# Altium integrated library Xilinx Aerospace and Defense.IntLib: 197 symbols (part 16 of 56)

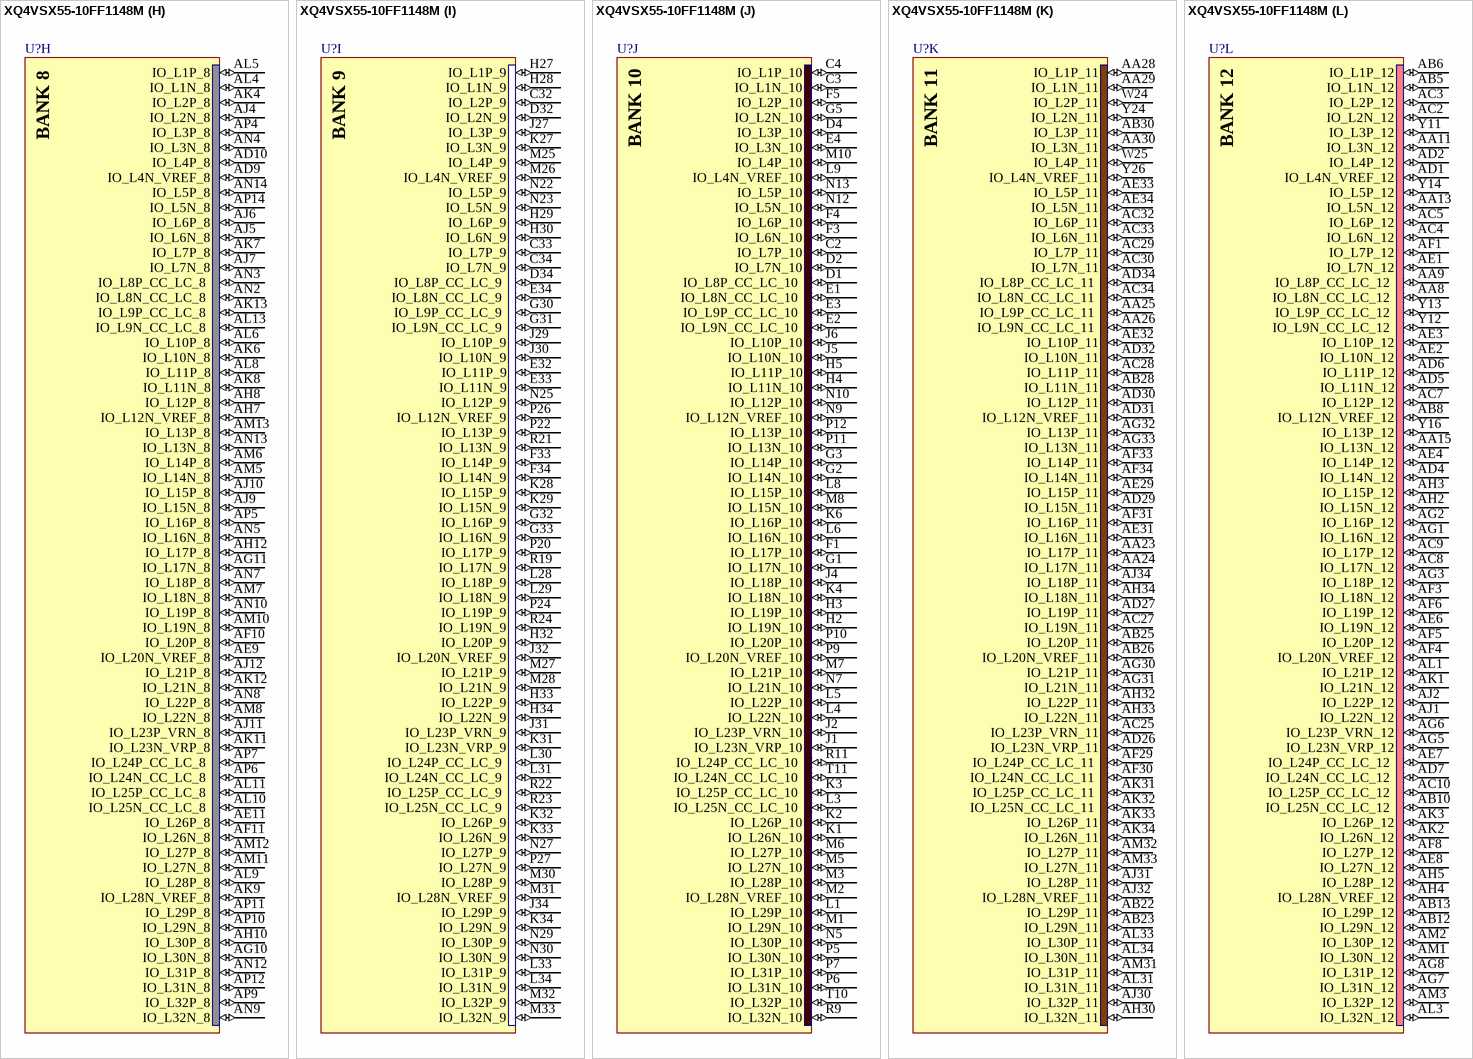
[diagram p62: symbol XQ4VSX55-10FF1148M]

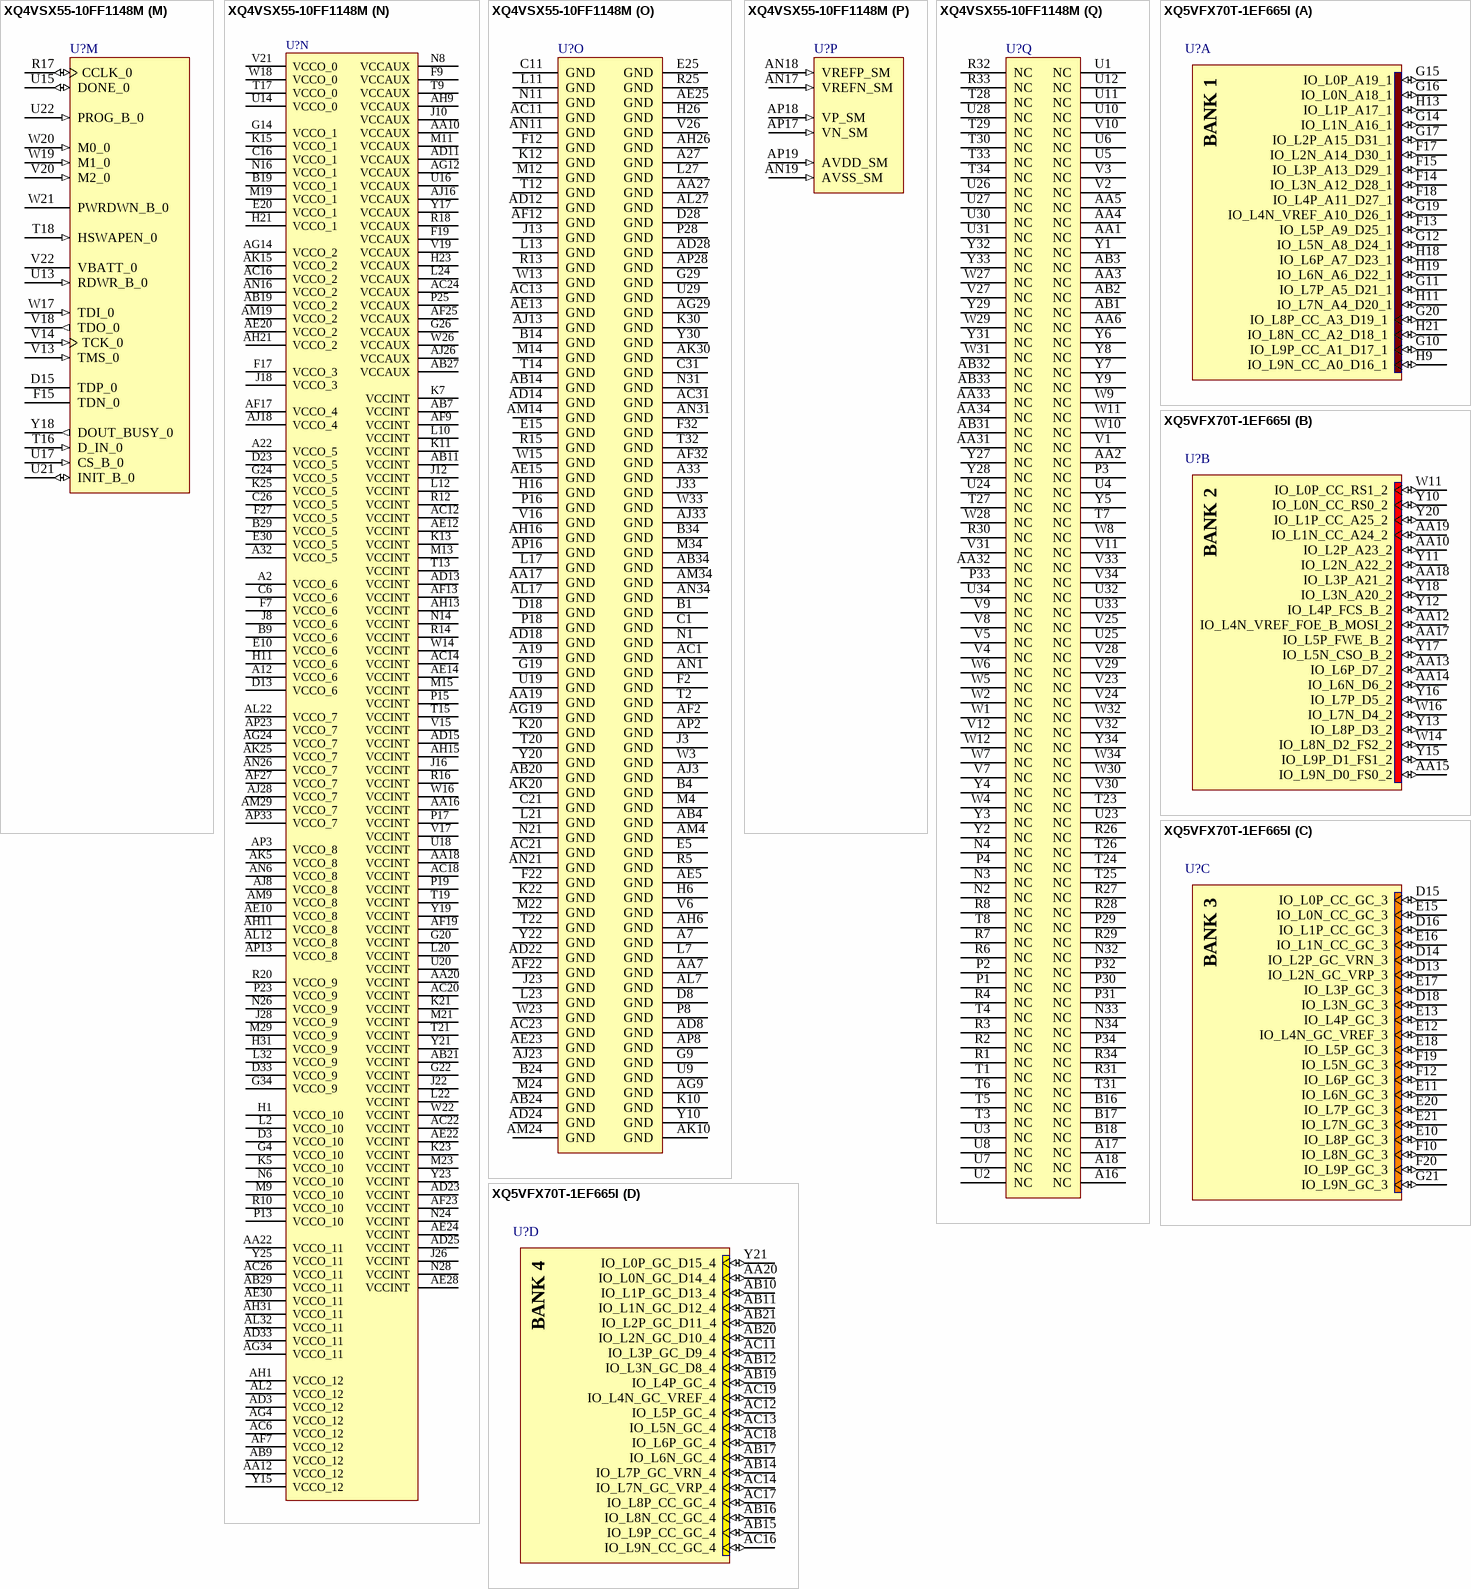
[diagram p63: symbols XQ4VSX55-10FF1148M to XQ5VFX70T-1EF665I]

## XQ4VSX55-10FF1148M
designator U?
Virtex-4 XQ SX Platform FPGA, 640 User I/Os, 1148-Ball FFBGA, Speed Grade 10, Military Grade; Published: 17-Nov-2009; DatasheetVersion: ver3.0, Sep-2007; PackageVersion: ver1.0, Oct-2002; PackageReference: FF1148; Publisher: Altium Limited; PackageDescription: 1148-Ball Flip Chip Fine Pitch Ball Grid Array (FF1148); Code_JEDEC: MS-034-AAR-1 (Depopulated); ComponentLink1Description: Virtex-4 Family Overview Datasheet; ComponentLink1URL: http://direct.xilinx.com/bvdocs/publications/ds112.pdf; ComponentLink2Description: Pinout Specification; ComponentLink2URL: http://www.xilinx.com/support/documentation/user_guides/ug075.pdf; ComponentLink3Description: FF1148 Package Drawing; ComponentLink3URL: http://www.xilinx.com/support/documentation/package_specs/ff1148.pdf; ComponentLink4Description: Xilinx.com Home; ComponentLink4URL: http://www.xilinx.com
footprint FF1148 (BGA, 1148-Leads, Body 35x35mm, Pitch 1mm)
signal-integrity model XQ4VSX55_FF1148 (Virtex-4)
part A pins: A15 IO_L24P_LC_1 (io), A20 IO_L17N_CC_LC_1 (io), B15 IO_L24N_LC_1 (io), B20 IO_L17P_CC_LC_1 (io), C15 IO_L14N_GC_LC_1 (io), C17 IO_L12P_GC_LC_1 (io), C18 IO_L13N_GC_LC_1 (io), C19 IO_L13P_GC_LC_1 (io), C20 IO_L15N_GC_LC_1 (io), D16 IO_L14P_GC_LC_1 (io), D17 IO_L12N_GC_VREF_LC_1 (io), D19 IO_L11N_GC_LC_1 (io), D20 IO_L15P_GC_LC_1 (io), D21 IO_L3N_D26_LC_1 (io), E19 IO_L11P_GC_LC_1 (io), E21 IO_L3P_D27_LC_1 (io), F13 IO_L8P_D17_CC_LC_1 (io), F14 IO_L22N_LC_1 (io), F20 IO_L23N_LC_1 (io), F21 IO_L23P_LC_1 (io), G13 IO_L8N_D16_CC_LC_1 (io), G15 IO_L22P_LC_1 (io), G21 IO_L21P_LC_1 (io), H13 IO_L6N_D20_LC_1 (io), H14 IO_L6P_D21_LC_1 (io), H15 IO_L20P_LC_1 (io), H20 IO_L21N_LC_1 (io), H22 IO_L7P_D19_LC_1 (io), J14 IO_L4P_D25_LC_1 (io), J15 IO_L20N_VREF_LC_1 (io), J20 IO_L19P_LC_1 (io), J21 IO_L7N_D18_LC_1 (io), K14 IO_L4N_D24_VREF_LC_1 (io), K16 IO_L18P_VRN_LC_1 (io), L14 IO_L2N_D28_LC_1 (io), L15 IO_L2P_D29_LC_1 (io), L16 IO_L18N_VRP_LC_1 (io), L18 IO_L9N_GC_LC_1 (io), L19 IO_L19N_LC_1 (io), M16 IO_L16P_GC_CC_LC_1 (io), M17 IO_L10P_GC_LC_1 (io), M18 IO_L9P_GC_LC_1 (io), M20 IO_L5N_D22_LC_1 (io), N15 IO_L16N_GC_CC_LC_1 (io), N17 IO_L10N_GC_LC_1 (io), N18 IO_L1N_D30_LC_1 (io), N19 IO_L1P_D31_LC_1 (io), N20 IO_L5P_D23_LC_1 (io)
part B pins: AB15 IO_L2N_D12_LC_2 (io), AB16 IO_L14N_GC_LC_2 (io), AB17 IO_L14P_GC_LC_2 (io), AB18 IO_L9N_GC_CC_LC_2 (io), AC15 IO_L2P_D13_LC_2 (io), AC17 IO_L12N_GC_VREF_LC_2 (io), AC19 IO_L9P_GC_CC_LC_2 (io), AD16 IO_L10P_GC_LC_2 (io), AD17 IO_L12P_GC_LC_2 (io), AD19 IO_L23P_VRN_LC_2 (io), AD20 IO_L17N_LC_2 (io), AD21 IO_L17P_LC_2 (io), AE19 IO_L23N_VRP_LC_2 (io), AE21 IO_L7P_D3_LC_2 (io), AF14 IO_L6P_D5_LC_2 (io), AF15 IO_L10N_GC_LC_2 (io), AF20 IO_L5N_D6_LC_2 (io), AF21 IO_L7N_D2_LC_2 (io), AG13 IO_L6N_D4_LC_2 (io), AG15 IO_L22P_LC_2 (io), AG20 IO_L21P_LC_2 (io), AG21 IO_L5P_D7_LC_2 (io), AG22 IO_L3P_D11_LC_2 (io), AH14 IO_L22N_LC_2 (io), AH20 IO_L21N_LC_2 (io), AH22 IO_L3N_D10_LC_2 (io), AJ14 IO_L20N_VREF_LC_2 (io), AJ15 IO_L20P_LC_2 (io), AJ20 IO_L19P_LC_2 (io), AJ21 IO_L1N_D14_CC_LC_2 (io), AJ22 IO_L1P_D15_CC_LC_2 (io), AK14 IO_L4N_D8_VREF_LC_2 (io), AK16 IO_L24N_CC_LC_2 (io), AL14 IO_L4P_D9_LC_2 (io), AL15 IO_L18N_LC_2 (io), AL16 IO_L24P_CC_LC_2 (io), AL18 IO_L15P_GC_LC_2 (io), AL19 IO_L13N_GC_LC_2 (io), AL20 IO_L19N_LC_2 (io), AM15 IO_L18P_LC_2 (io), AM16 IO_L16N_GC_LC_2 (io), AM17 IO_L16P_GC_LC_2 (io), AM18 IO_L15N_GC_LC_2 (io), AM20 IO_L13P_GC_LC_2 (io), AN15 IO_L8N_D0_LC_2 (io), AN20 IO_L11P_GC_LC_2 (io), AP15 IO_L8P_D1_LC_2 (io), AP20 IO_L11N_GC_LC_2 (io)
part C pins: E16 IO_L6P_GC_LC_3 (io), E17 IO_L4N_GC_VREF_LC_3 (io), E18 IO_L4P_GC_LC_3 (io), F16 IO_L6N_GC_LC_3 (io), F18 IO_L1P_GC_CC_LC_3 (io), G16 IO_L8N_GC_LC_3 (io), G17 IO_L8P_GC_LC_3 (io), G18 IO_L1N_GC_CC_LC_3 (io), H17 IO_L2P_GC_VRN_LC_3 (io), H18 IO_L3N_GC_LC_3 (io), H19 IO_L3P_GC_LC_3 (io), J17 IO_L2N_GC_VRP_LC_3 (io), J19 IO_L7N_GC_LC_3 (io), K17 IO_L5N_GC_LC_3 (io), K18 IO_L5P_GC_LC_3 (io), K19 IO_L7P_GC_LC_3 (io)
part D pins: AE16 IO_L6N_GC_LC_4 (io), AE17 IO_L6P_GC_LC_4 (io), AE18 IO_L1N_GC_LC_4 (io), AF16 IO_L2N_GC_LC_4 (io), AF18 IO_L1P_GC_LC_4 (io), AG16 IO_L2P_GC_LC_4 (io), AG17 IO_L5N_GC_LC_4 (io), AG18 IO_L5P_GC_LC_4 (io), AH17 IO_L8N_GC_CC_LC_4 (io), AH18 IO_L3N_GC_LC_4 (io), AH19 IO_L3P_GC_LC_4 (io), AJ17 IO_L8P_GC_CC_LC_4 (io), AJ19 IO_L7P_GC_VRN_LC_4 (io), AK17 IO_L4N_GC_VREF_LC_4 (io), AK18 IO_L4P_GC_LC_4 (io), AK19 IO_L7N_GC_VRP_LC_4 (io)
part E pins: A21 IO_L21N_5 (io), A23 IO_L1N_ADC7_5 (io), A24 IO_L3P_ADC5_5 (io), A25 IO_L3N_ADC5_5 (io), A26 IO_L2P_ADC6_5 (io), A28 IO_L14P_5 (io), A29 IO_L14N_5 (io), A30 IO_L18P_5 (io), A31 IO_L24P_CC_LC_5 (io), B21 IO_L21P_5 (io), B22 IO_L17N_5 (io), B23 IO_L1P_ADC7_5 (io), B25 IO_L15P_5 (io), B26 IO_L2N_ADC6_5 (io), B27 IO_L8P_CC_ADC1_LC_5 (io), B28 IO_L25P_CC_LC_5 (io), B30 IO_L18N_5 (io), B31 IO_L24N_CC_LC_5 (io), B32 IO_L31P_5 (io), B33 IO_L31N_5 (io), C22 IO_L17P_5 (io), C23 IO_L5P_ADC4_5 (io), C24 IO_L5N_ADC4_5 (io), C25 IO_L15N_5 (io), C27 IO_L8N_CC_ADC1_LC_5 (io), C28 IO_L25N_CC_LC_5 (io), C29 IO_L20P_5 (io), C30 IO_L20N_VREF_5 (io), D22 IO_L23N_VRP_5 (io), D24 IO_L7P_ADC2_5 (io), D25 IO_L7N_ADC2_5 (io), D26 IO_L10P_5 (io), D27 IO_L12P_5 (io), D29 IO_L29P_5 (io), D30 IO_L26P_5 (io), D31 IO_L26N_5 (io), E22 IO_L23P_VRN_5 (io), E23 IO_L9N_CC_LC_5 (io), E24 IO_L11N_5 (io), E26 IO_L10N_5 (io), E27 IO_L12N_VREF_5 (io), E28 IO_L22P_5 (io), E29 IO_L29N_5 (io), E31 IO_L32P_5 (io), F23 IO_L9P_CC_LC_5 (io), F24 IO_L11P_5 (io), F25 IO_L6P_ADC3_5 (io), F26 IO_L6N_ADC3_5 (io), F28 IO_L22N_5 (io), F29 IO_L28P_5 (io), F30 IO_L28N_VREF_5 (io), F31 IO_L32N_5 (io), G23 IO_L13P_5 (io), G25 IO_L4P_5 (io), G27 IO_L27P_5 (io), G28 IO_L27N_5 (io), H24 IO_L13N_5 (io), H25 IO_L4N_VREF_5 (io), J24 IO_L19N_5 (io), J25 IO_L16P_5 (io), K24 IO_L19P_5 (io), K26 IO_L16N_5 (io), L25 IO_L30P_5 (io), L26 IO_L30N_5 (io)
part F pins: A3 IO_L20N_VREF_6 (io), A4 IO_L20P_6 (io), A5 IO_L22P_6 (io), A6 IO_L12P_6 (io), A8 IO_L10P_6 (io), A9 IO_L15N_6 (io), A10 IO_L15P_6 (io), A11 IO_L3P_6 (io), A13 IO_L17N_6 (io), A14 IO_L17P_6 (io), B2 IO_L30N_6 (io), B3 IO_L30P_6 (io), B5 IO_L22N_6 (io), B6 IO_L12N_VREF_6 (io), B7 IO_L14P_6 (io), B8 IO_L10N_6 (io), B10 IO_L2P_6 (io), B11 IO_L3N_6 (io), B12 IO_L9N_CC_LC_6 (io), B13 IO_L9P_CC_LC_6 (io), C5 IO_L27P_6 (io), C7 IO_L14N_6 (io), C8 IO_L4N_VREF_6 (io), C9 IO_L4P_6 (io), C10 IO_L2N_6 (io), C12 IO_L1N_6 (io), C13 IO_L25N_CC_LC_6 (io), C14 IO_L25P_CC_LC_6 (io), D5 IO_L27N_6 (io), D6 IO_L18N_6 (io), D7 IO_L18P_6 (io), D9 IO_L19P_6 (io), D10 IO_L7N_6 (io), D11 IO_L7P_6 (io), D12 IO_L1P_6 (io), D14 IO_L29N_6 (io), E6 IO_L26P_6 (io), E7 IO_L23N_VRP_6 (io), E8 IO_L23P_VRN_6 (io), E9 IO_L19N_6 (io), E11 IO_L11P_6 (io), E12 IO_L21N_6 (io), E13 IO_L21P_6 (io), E14 IO_L29P_6 (io), F6 IO_L26N_6 (io), F8 IO_L16P_6 (io), F10 IO_L6P_6 (io), F11 IO_L11N_6 (io), G6 IO_L28N_VREF_6 (io), G7 IO_L28P_6 (io), G8 IO_L16N_6 (io), G10 IO_L6N_6 (io), G11 IO_L5N_6 (io), G12 IO_L5P_6 (io), H7 IO_L31N_6 (io), H8 IO_L31P_6 (io), H9 IO_L8N_CC_LC_6 (io), H10 IO_L8P_CC_LC_6 (io), H12 IO_L13P_6 (io), J7 IO_L32N_6 (io), J9 IO_L24P_CC_LC_6 (io), J11 IO_L13N_6 (io), K8 IO_L32P_6 (io), K9 IO_L24N_CC_LC_6 (io)
part G pins: AE26 IO_L3N_7 (io), AE27 IO_L2N_7 (io), AF24 IO_L21N_7 (io), AF26 IO_L3P_7 (io), AF28 IO_L2P_7 (io), AG23 IO_L21P_7 (io), AG25 IO_L22P_7 (io), AG26 IO_L22N_7 (io), AG27 IO_L8P_CC_LC_7 (io), AG28 IO_L8N_CC_LC_7 (io), AH23 IO_L23P_VRN_7 (io), AH24 IO_L23N_VRP_7 (io), AH25 IO_L28N_VREF_7 (io), AH27 IO_L16N_7 (io), AH28 IO_L6P_7 (io), AH29 IO_L6N_7 (io), AJ24 IO_L19N_7 (io), AJ25 IO_L28P_7 (io), AJ27 IO_L16P_7 (io), AJ29 IO_L1N_7 (io), AK21 IO_L5P_7 (io), AK22 IO_L13P_7 (io), AK23 IO_L13N_7 (io), AK24 IO_L19P_7 (io), AK26 IO_L26N_SM6_7 (io), AK27 IO_L20P_7 (io), AK28 IO_L20N_VREF_7 (io), AK29 IO_L1P_7 (io), AL21 IO_L5N_7 (io), AL23 IO_L31P_SM2_7 (io), AL24 IO_L25P_CC_SM7_LC_7 (io), AL25 IO_L25N_CC_SM7_LC_7 (io), AL26 IO_L26P_SM6_7 (io), AL28 IO_L14P_7 (io), AL29 IO_L14N_7 (io), AL30 IO_L10N_7 (io), AM21 IO_L9P_CC_LC_7 (io), AM22 IO_L9N_CC_LC_7 (io), AM23 IO_L31N_SM2_7 (io), AM25 IO_L32N_SM1_7 (io), AM26 IO_L30P_SM3_7 (io), AM27 IO_L30N_SM3_7 (io), AM28 IO_L24N_CC_LC_7 (io), AM30 IO_L10P_7 (io), AN22 IO_L27P_SM5_7 (io), AN23 IO_L27N_SM5_7 (io), AN24 IO_L29N_SM4_7 (io), AN25 IO_L32P_SM1_7 (io), AN27 IO_L11N_7 (io), AN28 IO_L24P_CC_LC_7 (io), AN29 IO_L18N_7 (io), AN30 IO_L7N_7 (io), AN32 IO_L4P_7 (io), AN33 IO_L4N_VREF_7 (io), AP21 IO_L17P_7 (io), AP22 IO_L17N_7 (io), AP24 IO_L29P_SM4_7 (io), AP25 IO_L15P_7 (io), AP26 IO_L15N_7 (io), AP27 IO_L11P_7 (io), AP29 IO_L18P_7 (io), AP30 IO_L7P_7 (io), AP31 IO_L12P_7 (io), AP32 IO_L12N_VREF_7 (io)
part H pins: AD9 IO_L4N_VREF_8 (io), AD10 IO_L4P_8 (io), AE9 IO_L20N_VREF_8 (io), AE11 IO_L26P_8 (io), AF10 IO_L20P_8 (io), AF11 IO_L26N_8 (io), AG10 IO_L30N_8 (io), AG11 IO_L17N_8 (io), AH7 IO_L12N_VREF_8 (io), AH8 IO_L12P_8 (io), AH10 IO_L30P_8 (io), AH12 IO_L17P_8 (io), AJ4 IO_L2N_8 (io), AJ5 IO_L6N_8 (io), AJ6 IO_L6P_8 (io), AJ7 IO_L7N_8 (io), AJ9 IO_L15N_8 (io), AJ10 IO_L15P_8 (io), AJ11 IO_L23P_VRN_8 (io), AJ12 IO_L21P_8 (io), AK4 IO_L2P_8 (io), AK6 IO_L10N_8 (io), AK7 IO_L7P_8 (io), AK8 IO_L11N_8 (io), AK9 IO_L28N_VREF_8 (io), AK11 IO_L23N_VRP_8 (io), AK12 IO_L21N_8 (io), AK13 IO_L9P_CC_LC_8 (io), AL4 IO_L1N_8 (io), AL5 IO_L1P_8 (io), AL6 IO_L10P_8 (io), AL8 IO_L11P_8 (io), AL9 IO_L28P_8 (io), AL10 IO_L25N_CC_LC_8 (io), AL11 IO_L25P_CC_LC_8 (io), AL13 IO_L9N_CC_LC_8 (io), AM5 IO_L14N_8 (io), AM6 IO_L14P_8 (io), AM7 IO_L18N_8 (io), AM8 IO_L22N_8 (io), AM10 IO_L19N_8 (io), AM11 IO_L27N_8 (io), AM12 IO_L27P_8 (io), AM13 IO_L13P_8 (io), AN2 IO_L8N_CC_LC_8 (io), AN3 IO_L8P_CC_LC_8 (io), AN4 IO_L3N_8 (io), AN5 IO_L16N_8 (io), AN7 IO_L18P_8 (io), AN8 IO_L22P_8 (io), AN9 IO_L32N_8 (io), AN10 IO_L19P_8 (io), AN12 IO_L31P_8 (io), AN13 IO_L13N_8 (io), AN14 IO_L5P_8 (io), AP4 IO_L3P_8 (io), AP5 IO_L16P_8 (io), AP6 IO_L24N_CC_LC_8 (io), AP7 IO_L24P_CC_LC_8 (io), AP9 IO_L32P_8 (io), AP10 IO_L29N_8 (io), AP11 IO_L29P_8 (io), AP12 IO_L31N_8 (io), AP14 IO_L5N_8 (io)
part I pins: C32 IO_L2P_9 (io), C33 IO_L7P_9 (io), C34 IO_L7N_9 (io), D32 IO_L2N_9 (io), D34 IO_L8P_CC_LC_9 (io), E32 IO_L11P_9 (io), E33 IO_L11N_9 (io), E34 IO_L8N_CC_LC_9 (io), F33 IO_L14P_9 (io), F34 IO_L14N_9 (io), G30 IO_L9P_CC_LC_9 (io), G31 IO_L9N_CC_LC_9 (io), G32 IO_L16P_9 (io), G33 IO_L16N_9 (io), H27 IO_L1P_9 (io), H28 IO_L1N_9 (io), H29 IO_L6P_9 (io), H30 IO_L6N_9 (io), H32 IO_L20P_9 (io), H33 IO_L22P_9 (io), H34 IO_L22N_9 (io), J27 IO_L3P_9 (io), J29 IO_L10P_9 (io), J30 IO_L10N_9 (io), J31 IO_L23P_VRN_9 (io), J32 IO_L20N_VREF_9 (io), J34 IO_L29P_9 (io), K27 IO_L3N_9 (io), K28 IO_L15P_9 (io), K29 IO_L15N_9 (io), K31 IO_L23N_VRP_9 (io), K32 IO_L26P_9 (io), K33 IO_L26N_9 (io), K34 IO_L29N_9 (io), L28 IO_L18P_9 (io), L29 IO_L18N_9 (io), L30 IO_L24P_CC_LC_9 (io), L31 IO_L24N_CC_LC_9 (io), L33 IO_L31P_9 (io), L34 IO_L31N_9 (io), M25 IO_L4P_9 (io), M26 IO_L4N_VREF_9 (io), M27 IO_L21P_9 (io), M28 IO_L21N_9 (io), M30 IO_L28P_9 (io), M31 IO_L28N_VREF_9 (io), M32 IO_L32P_9 (io), M33 IO_L32N_9 (io), N22 IO_L5P_9 (io), N23 IO_L5N_9 (io), N25 IO_L12P_9 (io), N27 IO_L27P_9 (io), N29 IO_L30P_9 (io), N30 IO_L30N_9 (io), P20 IO_L17P_9 (io), P22 IO_L13P_9 (io), P24 IO_L19P_9 (io), P26 IO_L12N_VREF_9 (io), P27 IO_L27N_9 (io), R19 IO_L17N_9 (io), R21 IO_L13N_9 (io), R22 IO_L25P_CC_LC_9 (io), R23 IO_L25N_CC_LC_9 (io), R24 IO_L19N_9 (io)
part J pins: C2 IO_L7P_10 (io), C3 IO_L1N_10 (io), C4 IO_L1P_10 (io), D1 IO_L8P_CC_LC_10 (io), D2 IO_L7N_10 (io), D4 IO_L3P_10 (io), E1 IO_L8N_CC_LC_10 (io), E2 IO_L9N_CC_LC_10 (io), E3 IO_L9P_CC_LC_10 (io), E4 IO_L3N_10 (io), F1 IO_L17P_10 (io), F3 IO_L6N_10 (io), F4 IO_L6P_10 (io), F5 IO_L2P_10 (io), G1 IO_L17N_10 (io), G2 IO_L14N_10 (io), G3 IO_L14P_10 (io), G5 IO_L2N_10 (io), H2 IO_L19N_10 (io), H3 IO_L19P_10 (io), H4 IO_L11N_10 (io), H5 IO_L11P_10 (io), J1 IO_L23N_VRP_10 (io), J2 IO_L23P_VRN_10 (io), J4 IO_L18P_10 (io), J5 IO_L10N_10 (io), J6 IO_L10P_10 (io), K1 IO_L26N_10 (io), K2 IO_L26P_10 (io), K3 IO_L25P_CC_LC_10 (io), K4 IO_L18N_10 (io), K6 IO_L16P_10 (io), L1 IO_L29P_10 (io), L3 IO_L25N_CC_LC_10 (io), L4 IO_L22N_10 (io), L5 IO_L22P_10 (io), L6 IO_L16N_10 (io), L8 IO_L15P_10 (io), L9 IO_L4N_VREF_10 (io), M1 IO_L29N_10 (io), M2 IO_L28N_VREF_10 (io), M3 IO_L28P_10 (io), M5 IO_L27N_10 (io), M6 IO_L27P_10 (io), M7 IO_L21P_10 (io), M8 IO_L15N_10 (io), M10 IO_L4P_10 (io), N5 IO_L30P_10 (io), N7 IO_L21N_10 (io), N9 IO_L12N_VREF_10 (io), N10 IO_L12P_10 (io), N12 IO_L5N_10 (io), N13 IO_L5P_10 (io), P5 IO_L30N_10 (io), P6 IO_L31N_10 (io), P7 IO_L31P_10 (io), P9 IO_L20N_VREF_10 (io), P10 IO_L20P_10 (io), P11 IO_L13N_10 (io), P12 IO_L13P_10 (io), R9 IO_L32N_10 (io), R11 IO_L24P_CC_LC_10 (io), T10 IO_L32P_10 (io), T11 IO_L24N_CC_LC_10 (io)
part K pins: AA23 IO_L17P_11 (io), AA24 IO_L17N_11 (io), AA25 IO_L9P_CC_LC_11 (io), AA26 IO_L9N_CC_LC_11 (io), AA28 IO_L1P_11 (io), AA29 IO_L1N_11 (io), AA30 IO_L3N_11 (io), AB22 IO_L29P_11 (io), AB23 IO_L29N_11 (io), AB25 IO_L20P_11 (io), AB26 IO_L20N_VREF_11 (io), AB28 IO_L11N_11 (io), AB30 IO_L3P_11 (io), AC25 IO_L23P_VRN_11 (io), AC27 IO_L19N_11 (io), AC28 IO_L11P_11 (io), AC29 IO_L7P_11 (io), AC30 IO_L7N_11 (io), AC32 IO_L6P_11 (io), AC33 IO_L6N_11 (io), AC34 IO_L8N_CC_LC_11 (io), AD26 IO_L23N_VRP_11 (io), AD27 IO_L19P_11 (io), AD29 IO_L15N_11 (io), AD30 IO_L12P_11 (io), AD31 IO_L12N_VREF_11 (io), AD32 IO_L10N_11 (io), AD34 IO_L8P_CC_LC_11 (io), AE29 IO_L15P_11 (io), AE31 IO_L16N_11 (io), AE32 IO_L10P_11 (io), AE33 IO_L5P_11 (io), AE34 IO_L5N_11 (io), AF29 IO_L24P_CC_LC_11 (io), AF30 IO_L24N_CC_LC_11 (io), AF31 IO_L16P_11 (io), AF33 IO_L14P_11 (io), AF34 IO_L14N_11 (io), AG30 IO_L21P_11 (io), AG31 IO_L21N_11 (io), AG32 IO_L13P_11 (io), AG33 IO_L13N_11 (io), AH30 IO_L32N_11 (io), AH32 IO_L22P_11 (io), AH33 IO_L22N_11 (io), AH34 IO_L18N_11 (io), AJ30 IO_L32P_11 (io), AJ31 IO_L28P_11 (io), AJ32 IO_L28N_VREF_11 (io), AJ34 IO_L18P_11 (io), AK31 IO_L25P_CC_LC_11 (io), AK32 IO_L25N_CC_LC_11 (io), AK33 IO_L26P_11 (io), AK34 IO_L26N_11 (io), AL31 IO_L31N_11 (io), AL33 IO_L30P_11 (io), AL34 IO_L30N_11 (io), AM31 IO_L31P_11 (io), AM32 IO_L27P_11 (io), AM33 IO_L27N_11 (io), W24 IO_L2P_11 (io), W25 IO_L4P_11 (io), Y24 IO_L2N_11 (io), Y26 IO_L4N_VREF_11 (io)
part L pins: AA8 IO_L8N_CC_LC_12 (io), AA9 IO_L8P_CC_LC_12 (io), AA11 IO_L3N_12 (io), AA13 IO_L5N_12 (io), AA15 IO_L13N_12 (io), AB5 IO_L1N_12 (io), AB6 IO_L1P_12 (io), AB8 IO_L12N_VREF_12 (io), AB10 IO_L25N_CC_LC_12 (io), AB12 IO_L29N_12 (io), AB13 IO_L29P_12 (io), AC2 IO_L2N_12 (io), AC3 IO_L2P_12 (io), AC4 IO_L6N_12 (io), AC5 IO_L6P_12 (io), AC7 IO_L12P_12 (io), AC8 IO_L17N_12 (io), AC9 IO_L17P_12 (io), AC10 IO_L25P_CC_LC_12 (io), AD1 IO_L4N_VREF_12 (io), AD2 IO_L4P_12 (io), AD4 IO_L14N_12 (io), AD5 IO_L11N_12 (io), AD6 IO_L11P_12 (io), AD7 IO_L24N_CC_LC_12 (io), AE1 IO_L7N_12 (io), AE2 IO_L10N_12 (io), AE3 IO_L10P_12 (io), AE4 IO_L14P_12 (io), AE6 IO_L19N_12 (io), AE7 IO_L24P_CC_LC_12 (io), AE8 IO_L27N_12 (io), AF1 IO_L7P_12 (io), AF3 IO_L18N_12 (io), AF4 IO_L20N_VREF_12 (io), AF5 IO_L20P_12 (io), AF6 IO_L19P_12 (io), AF8 IO_L27P_12 (io), AG1 IO_L16N_12 (io), AG2 IO_L16P_12 (io), AG3 IO_L18P_12 (io), AG5 IO_L23N_VRP_12 (io), AG6 IO_L23P_VRN_12 (io), AG7 IO_L31N_12 (io), AG8 IO_L31P_12 (io), AH2 IO_L15N_12 (io), AH3 IO_L15P_12 (io), AH4 IO_L28N_VREF_12 (io), AH5 IO_L28P_12 (io), AJ1 IO_L22N_12 (io), AJ2 IO_L22P_12 (io), AK1 IO_L21N_12 (io), AK2 IO_L26N_12 (io), AK3 IO_L26P_12 (io), AL1 IO_L21P_12 (io), AL3 IO_L32N_12 (io), AM1 IO_L30N_12 (io), AM2 IO_L30P_12 (io), AM3 IO_L32P_12 (io), Y11 IO_L3P_12 (io), Y12 IO_L9N_CC_LC_12 (io), Y13 IO_L9P_CC_LC_12 (io), Y14 IO_L5P_12 (io), Y16 IO_L13P_12 (io)
part M pins: D15 TDP_0, F15 TDN_0, R17 CCLK_0 (io), T16 D_IN_0 (in), T18 HSWAPEN_0 (in), U13 RDWR_B_0 (in), U15 DONE_0 (io), U17 CS_B_0 (in), U21 INIT_B_0 (io), U22 PROG_B_0 (in), V13 TMS_0 (in), V14 TCK_0 (in), V18 TDO_0 (out), V20 M2_0 (in), V22 VBATT_0 (power), W17 TDI_0 (in), W19 M1_0 (in), W20 M0_0 (in), W21 PWRDWN_B_0, Y18 DOUT_BUSY_0 (out)
part N pins: A2 VCCO_6 (power), A12 VCCO_6 (power), A22 VCCO_5 (power), A32 VCCO_5 (power), AA10 VCCAUX (power), AA12 VCCO_12 (power), AA16 VCCINT (power), AA18 VCCINT (power), AA20 VCCINT (power), AA22 VCCO_11 (power), AB7 VCCINT (power), AB9 VCCO_12 (power), AB11 VCCINT (power), AB19 VCCO_2 (power), AB21 VCCINT (power), AB27 VCCAUX (power), AB29 VCCO_11 (power), AC6 VCCO_12 (power), AC12 VCCINT (power), AC14 VCCINT (power), AC16 VCCO_2 (power), AC18 VCCINT (power), AC20 VCCINT (power), AC22 VCCINT (power), AC24 VCCAUX (power), AC26 VCCO_11 (power), AD3 VCCO_12 (power), AD11 VCCAUX (power), AD13 VCCINT (power), AD15 VCCINT (power), AD23 VCCINT (power), AD25 VCCINT (power), AD33 VCCO_11 (power), AE10 VCCO_8 (power), AE12 VCCINT (power), AE14 VCCINT (power), AE20 VCCO_2 (power), AE22 VCCINT (power), AE24 VCCINT (power), AE28 VCCINT (power), AE30 VCCO_11 (power), AF7 VCCO_12 (power), AF9 VCCINT (power), AF13 VCCINT (power), AF17 VCCO_4 (power), AF19 VCCINT (power), AF23 VCCINT (power), AF25 VCCAUX (power), AF27 VCCO_7 (power), AG4 VCCO_12 (power), AG12 VCCAUX (power), AG14 VCCO_2 (power), AG24 VCCO_7 (power), AG34 VCCO_11 (power), AH1 VCCO_12 (power), AH9 VCCAUX (power), AH11 VCCO_8 (power), AH13 VCCINT (power), AH15 VCCINT (power), AH21 VCCO_2 (power), AH31 VCCO_11 (power), AJ8 VCCO_8 (power), AJ16 VCCAUX (power), AJ18 VCCO_4 (power), AJ26 VCCAUX (power), AJ28 VCCO_7 (power), AK5 VCCO_8 (power), AK15 VCCO_2 (power), AK25 VCCO_7 (power), AL2 VCCO_12 (power), AL12 VCCO_8 (power), AL22 VCCO_7 (power), AL32 VCCO_11 (power), AM9 VCCO_8 (power), AM19 VCCO_2 (power), AM29 VCCO_7 (power), AN6 VCCO_8 (power), AN16 VCCO_2 (power), AN26 VCCO_7 (power), AP3 VCCO_8 (power), AP13 VCCO_8 (power), AP23 VCCO_7 (power), AP33 VCCO_7 (power), B9 VCCO_6 (power), B19 VCCO_1 (power), B29 VCCO_5 (power), C6 VCCO_6 (power), C16 VCCO_1 (power), C26 VCCO_5 (power), D3 VCCO_10 (power), D13 VCCO_6 (power), D23 VCCO_5 (power), D33 VCCO_9 (power), E10 VCCO_6 (power), E20 VCCO_1 (power), E30 VCCO_5 (power), F7 VCCO_6 (power), F9 VCCAUX (power), F17 VCCO_3 (power), F19 VCCAUX (power), F27 VCCO_5 (power), G4 VCCO_10 (power), G14 VCCO_1 (power), G20 VCCINT (power), G22 VCCINT (power), G24 VCCO_5 (power), G26 VCCAUX (power), G34 VCCO_9 (power), H1 VCCO_10 (power), H11 VCCO_6 (power), H21 VCCO_1 (power), H23 VCCAUX (power), H31 VCCO_9 (power), J8 VCCO_6 (power), J10 VCCAUX (power), J12 VCCINT (power), J16 VCCINT (power), J18 VCCO_3 (power), J22 VCCINT (power), J26 VCCINT (power), J28 VCCO_9 (power), K5 VCCO_10 (power), K7 VCCINT (power), K11 VCCINT (power), K13 VCCINT (power), K15 VCCO_1 (power), K21 VCCINT (power), K23 VCCINT (power), K25 VCCO_5 (power), L2 VCCO_10 (power), L10 VCCINT (power), L12 VCCINT (power), L20 VCCINT (power), L22 VCCINT (power), L24 VCCAUX (power), L32 VCCO_9 (power), M9 VCCO_10 (power), M11 VCCAUX (power), M13 VCCINT (power), M15 VCCINT (power), M19 VCCO_1 (power), M21 VCCINT (power), M23 VCCINT (power), M29 VCCO_9 (power), N6 VCCO_10 (power), N8 VCCAUX (power), N14 VCCINT (power), N16 VCCO_1 (power), N24 VCCINT (power), N26 VCCO_9 (power), N28 VCCINT (power), P13 VCCO_10 (power), P15 VCCINT (power), P17 VCCINT (power), P19 VCCINT (power), P23 VCCO_9 (power), P25 VCCAUX (power), R10 VCCO_10 (power), R12 VCCINT (power), R14 VCCINT (power), R16 VCCINT (power), R18 VCCAUX (power), R20 VCCO_9 (power), T9 VCCAUX (power), T13 VCCINT (power), T15 VCCINT (power), T17 VCCO_0 (power), T19 VCCINT (power), T21 VCCINT (power), U14 VCCO_0 (power), U16 VCCAUX (power), U18 VCCINT (power), U20 VCCINT (power), V15 VCCINT (power), V17 VCCINT (power), V19 VCCAUX (power), V21 VCCO_0 (power), W14 VCCINT (power), W16 VCCINT (power), W18 VCCO_0 (power), W22 VCCINT (power), W26 VCCAUX (power), Y15 VCCO_12 (power), Y17 VCCAUX (power), Y19 VCCINT (power), Y21 VCCINT (power), Y23 VCCINT (power), Y25 VCCO_11 (power)
part O pins: A7 GND (power), A19 GND (power), A27 GND (power), A33 GND (power), AA7 GND (power), AA17 GND (power), AA19 GND (power), AA27 GND (power), AB4 GND (power), AB14 GND (power), AB20 GND (power), AB24 GND (power), AB34 GND (power), AC1 GND (power), AC11 GND (power), AC13 GND (power), AC21 GND (power), AC23 GND (power), AC31 GND (power), AD8 GND (power), AD12 GND (power), AD14 GND (power), AD18 GND (power), AD22 GND (power), AD24 GND (power), AD28 GND (power), AE5 GND (power), AE13 GND (power), AE15 GND (power), AE23 GND (power), AE25 GND (power), AF2 GND (power), AF12 GND (power), AF22 GND (power), AF32 GND (power), AG9 GND (power), AG19 GND (power), AG29 GND (power), AH6 GND (power), AH16 GND (power), AH26 GND (power), AJ3 GND (power), AJ13 GND (power), AJ23 GND (power), AJ33 GND (power), AK10 GND (power), AK20 GND (power), AK30 GND (power), AL7 GND (power), AL17 GND (power), AL27 GND (power), AM4 GND (power), AM14 GND (power), AM24 GND (power), AM34 GND (power), AN1 GND (power), AN11 GND (power), AN21 GND (power), AN31 GND (power), AN34 GND (power), AP2 GND (power), AP8 GND (power), AP16 GND (power), AP28 GND (power), B1 GND (power), B4 GND (power), B14 GND (power), B24 GND (power), B34 GND (power), C1 GND (power), C11 GND (power), C21 GND (power), C31 GND (power), D8 GND (power), D18 GND (power), D28 GND (power), E5 GND (power), E15 GND (power), E25 GND (power), F2 GND (power), F12 GND (power), F22 GND (power), F32 GND (power), G9 GND (power), G19 GND (power), G29 GND (power), H6 GND (power), H16 GND (power), H26 GND (power), J3 GND (power), J13 GND (power), J23 GND (power), J33 GND (power), K10 GND (power), K12 GND (power), K20 GND (power), K22 GND (power), K30 GND (power), L7 GND (power), L11 GND (power), L13 GND (power), L17 GND (power), L21 GND (power), L23 GND (power), L27 GND (power), M4 GND (power), M12 GND (power), M14 GND (power), M22 GND (power), M24 GND (power), M34 GND (power), N1 GND (power), N11 GND (power), N21 GND (power), N31 GND (power), P8 GND (power), P16 GND (power), P18 GND (power), P28 GND (power), R5 GND (power), R13 GND (power), R15 GND (power), R25 GND (power), T2 GND (power), T12 GND (power), T14 GND (power), T20 GND (power), T22 GND (power), T32 GND (power), U9 GND (power), U19 GND (power), U29 GND (power), V6 GND (power), V16 GND (power), V26 GND (power), W3 GND (power), W13 GND (power), W15 GND (power), W23 GND (power), W33 GND (power), Y10 GND (power), Y20 GND (power), Y22 GND (power), Y30 GND (power)
part P pins: AN17 VREFN_SM (in), AN18 VREFP_SM (in), AN19 AVSS_SM (in), AP17 VN_SM (in), AP18 VP_SM (in), AP19 AVDD_SM (in)
part Q pins: A16 NC, A17 NC, A18 NC, AA1 NC, AA2 NC, AA3 NC, AA4 NC, AA5 NC, AA6 NC, AA31 NC, AA32 NC, AA33 NC, AA34 NC, AB1 NC, AB2 NC, AB3 NC, AB31 NC, AB32 NC, AB33 NC, B16 NC, B17 NC, B18 NC, N2 NC, N3 NC, N4 NC, N32 NC, N33 NC, N34 NC, P1 NC, P2 NC, P3 NC, P4 NC, P29 NC, P30 NC, P31 NC, P32 NC, P33 NC, P34 NC, R1 NC, R2 NC, R3 NC, R4 NC, R6 NC, R7 NC, R8 NC, R26 NC, R27 NC, R28 NC, R29 NC, R30 NC, R31 NC, R32 NC, R33 NC, R34 NC, T1 NC, T3 NC, T4 NC, T5 NC, T6 NC, T7 NC, T8 NC, T23 NC, T24 NC, T25 NC, T26 NC, T27 NC, T28 NC, T29 NC, T30 NC, T31 NC, T33 NC, T34 NC, U1 NC, U2 NC, U3 NC, U4 NC, U5 NC, U6 NC, U7 NC, U8 NC, U10 NC, U11 NC, U12 NC, U23 NC, U24 NC, U25 NC, U26 NC, U27 NC, U28 NC, U30 NC, U31 NC, U32 NC, U33 NC, U34 NC, V1 NC, V2 NC, V3 NC, V4 NC, V5 NC, V7 NC, V8 NC, V9 NC, V10 NC, V11 NC, V12 NC, V23 NC, V24 NC, V25 NC, V27 NC, V28 NC, V29 NC, V30 NC, V31 NC, V32 NC, V33 NC, V34 NC, W1 NC, W2 NC, W4 NC, W5 NC, W6 NC, W7 NC, W8 NC, W9 NC, W10 NC, W11 NC, W12 NC, W27 NC, W28 NC, W29 NC, W30 NC, W31 NC, W32 NC, W34 NC, Y1 NC, Y2 NC, Y3 NC, Y4 NC, Y5 NC, Y6 NC, Y7 NC, Y8 NC, Y9 NC, Y27 NC, Y28 NC, Y29 NC, Y31 NC, Y32 NC, Y33 NC, Y34 NC
part A text: BANK 1
part B text: BANK 2
part C text: BANK 3
part D text: BANK 4
part E text: BANK 5
part F text: BANK 6
part G text: BANK 7
part H text: BANK 8
part I text: BANK 9
part J text: BANK 10
part K text: BANK 11
part L text: BANK 12

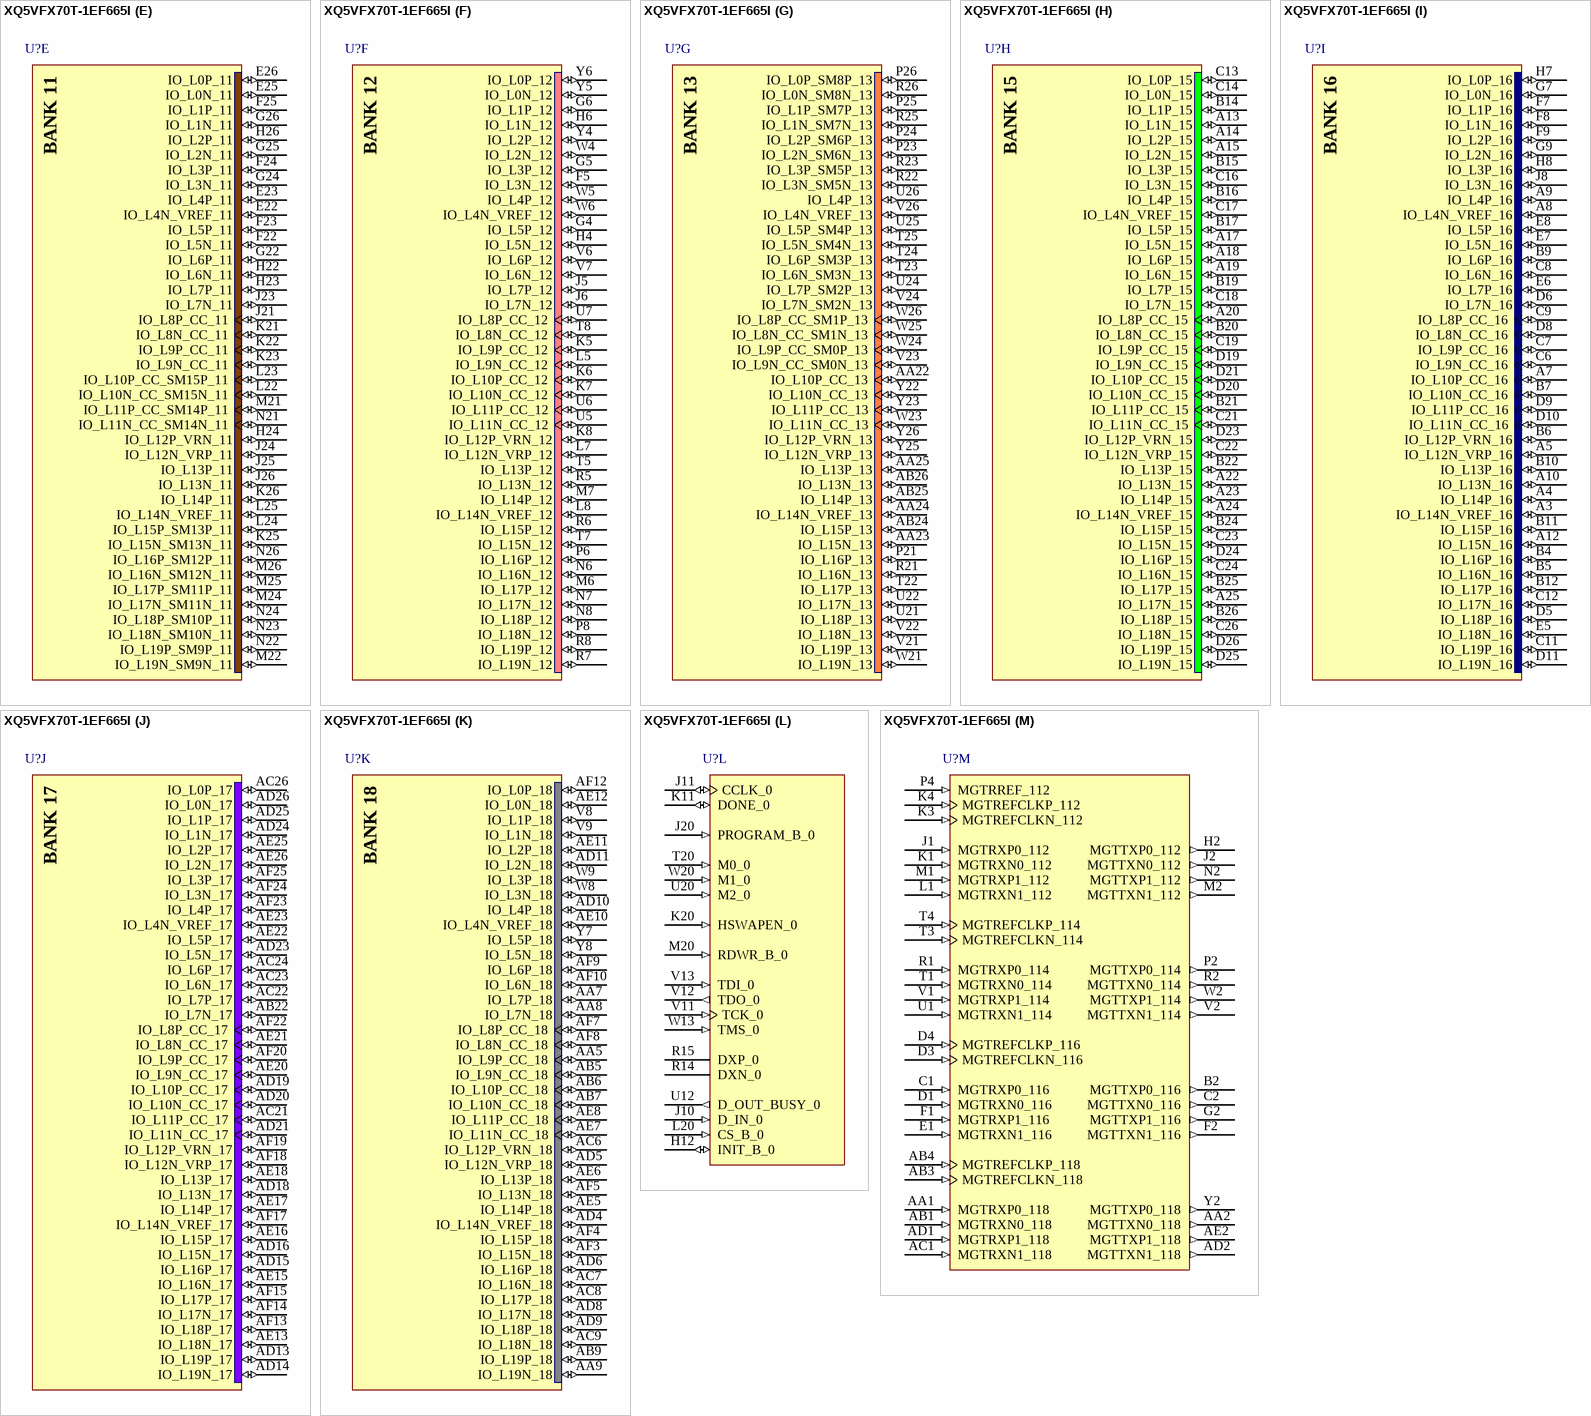
[diagram p64: symbol XQ5VFX70T-1EF665I]

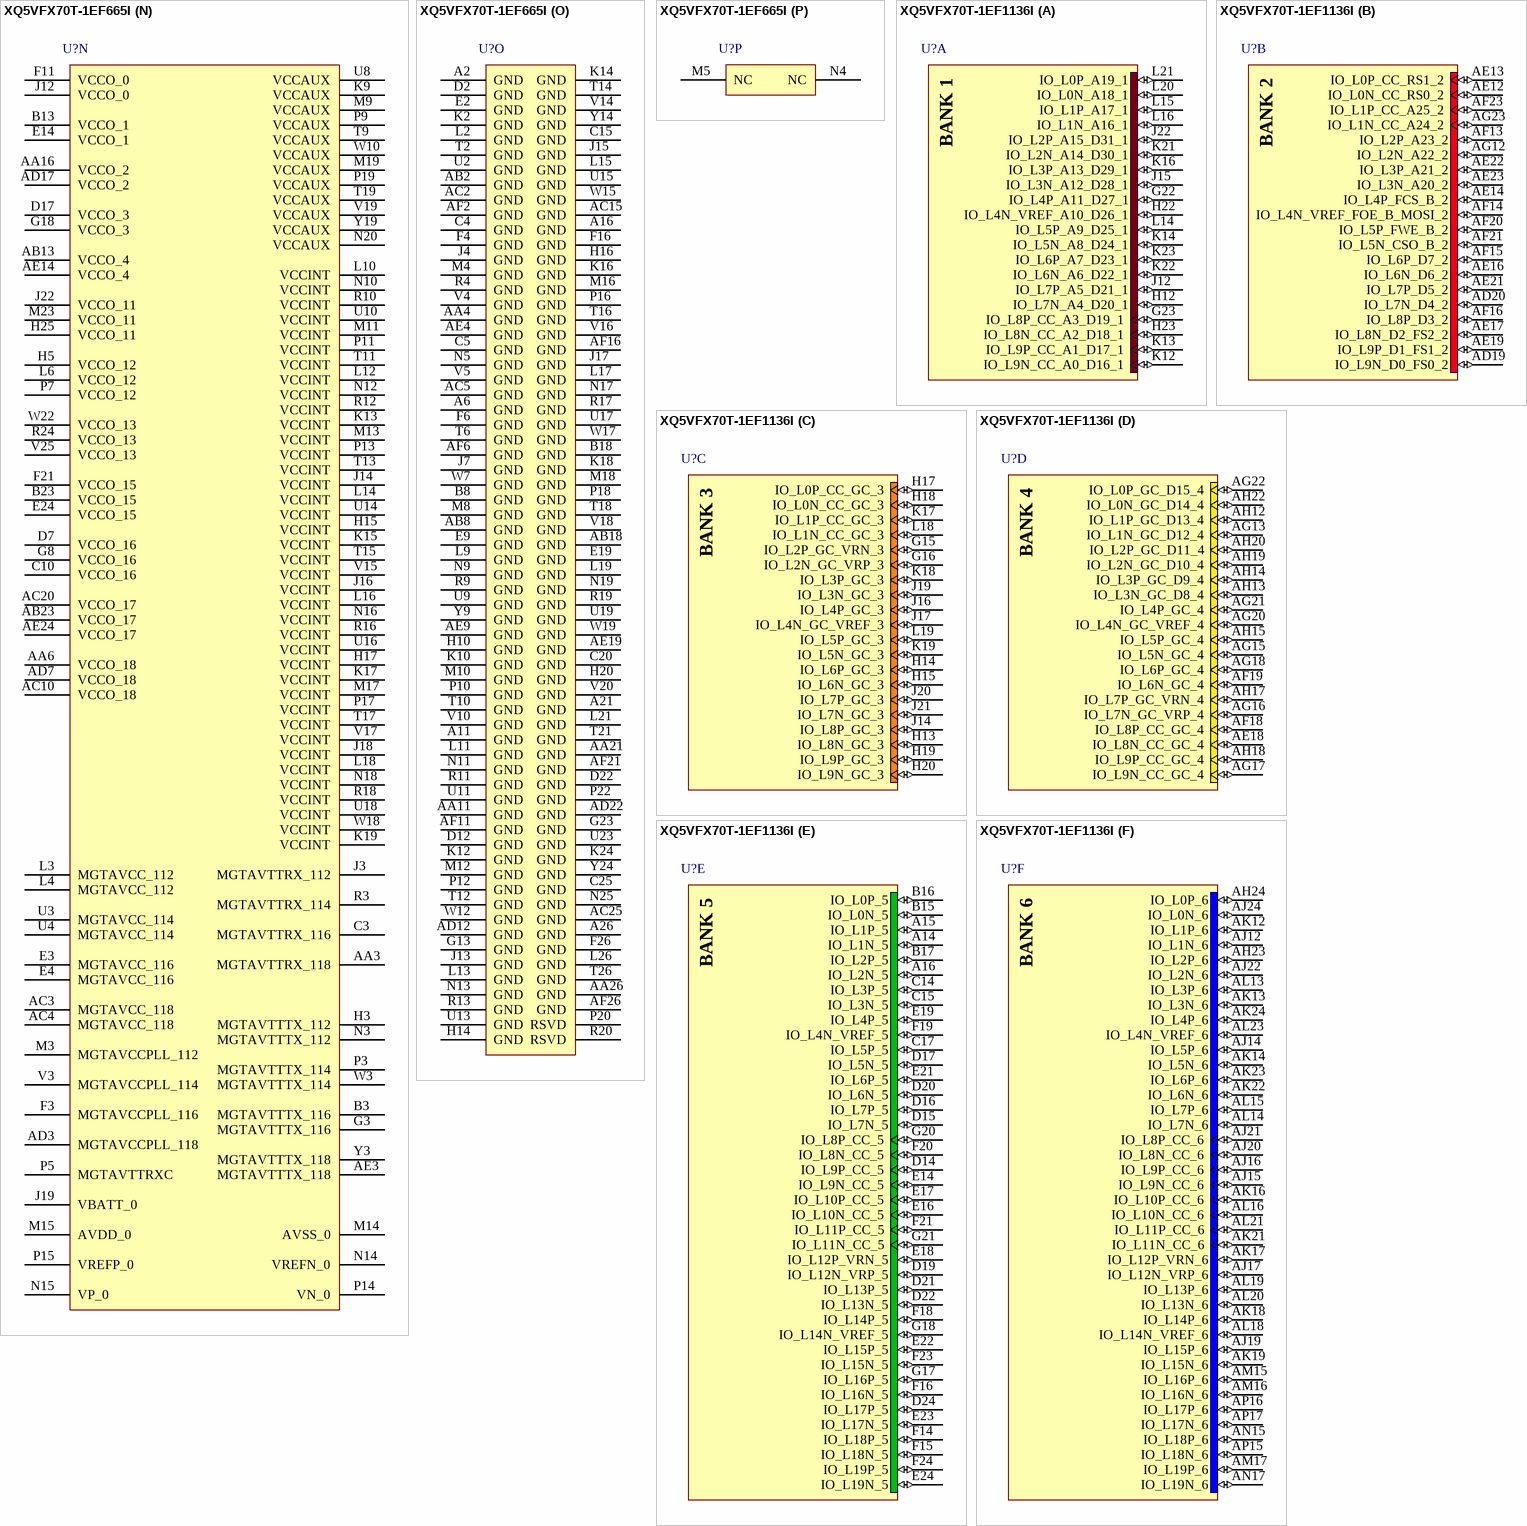
[diagram p65: symbols XQ5VFX70T-1EF665I to XQ5VFX70T-1EF1136I]

## XQ5VFX70T-1EF665I
designator U?
Virtex-5Q FXT Platform FPGA, 360 User I/Os, 665-Ball EFBGA, Speed Grade 1, Industrial Grade; Published: 17-Nov-2009; LatestRevisionDate: 01-Mar-2010; LatestRevisionNote: Updated to datasheet version 1.1 Dec-2009.; DatasheetVersion: ver1.1, Dec-2009; PackageVersion: ver1.1, Aug-2009; PackageReference: EF665; Publisher: Altium Limited; PackageDescription: 665-Ball Flip Chip Ball Grid Array (EF665); Code_JEDEC: MS-034-AAL-1 (Depopulated); ComponentLink1Description: Virtex-5Q Datasheet; ComponentLink1URL: http://www.xilinx.com/support/documentation/data_sheets/ds174.pdf; ComponentLink2Description: Pinout Specification; ComponentLink2URL: http://direct.xilinx.com/bvdocs/userguides/ug195.pdf; ComponentLink3Description: EF665 Package Drawing; ComponentLink3URL: http://www.xilinx.com/support/documentation/package_specs/ef665.pdf; ComponentLink4Description: Virtex-5Q Documents; ComponentLink4URL: http://www.xilinx.com/support/documentation/virtex-5q.htm; ComponentLink5Description: Xilinx.com Home; ComponentLink5URL: http://www.xilinx.com
footprint EF665 (BGA, 665-Leads, Body 27x27mm, Pitch 1mm)
signal-integrity model XQ5VFX70T_EF665 (Virtex-5Q)
part A pins: F13 IO_L5P_A9_D25_1 (io), F14 IO_L3N_A12_D28_1 (io), F15 IO_L3P_A13_D29_1 (io), F17 IO_L2N_A14_D30_1 (io), F18 IO_L4P_A11_D27_1 (io), G10 IO_L9P_CC_A1_D17_1 (io), G11 IO_L7P_A5_D21_1 (io), G12 IO_L5N_A8_D24_1 (io), G14 IO_L1N_A16_1 (io), G15 IO_L0P_A19_1 (io), G16 IO_L0N_A18_1 (io), G17 IO_L2P_A15_D31_1 (io), G19 IO_L4N_VREF_A10_D26_1 (io), G20 IO_L8P_CC_A3_D19_1 (io), H9 IO_L9N_CC_A0_D16_1 (io), H11 IO_L7N_A4_D20_1 (io), H13 IO_L1P_A17_1 (io), H18 IO_L6P_A7_D23_1 (io), H19 IO_L6N_A6_D22_1 (io), H21 IO_L8N_CC_A2_D18_1 (io)
part B pins: AA10 IO_L2P_A23_2 (io), AA12 IO_L4N_VREF_FOE_B_MOSI_2 (io), AA13 IO_L6P_D7_2 (io), AA14 IO_L6N_D6_2 (io), AA15 IO_L9N_D0_FS0_2 (io), AA17 IO_L5P_FWE_B_2 (io), AA18 IO_L3P_A21_2 (io), AA19 IO_L1N_CC_A24_2 (io), W11 IO_L0P_CC_RS1_2 (io), W14 IO_L8N_D2_FS2_2 (io), W16 IO_L7N_D4_2 (io), Y10 IO_L0N_CC_RS0_2 (io), Y11 IO_L2N_A22_2 (io), Y12 IO_L4P_FCS_B_2 (io), Y13 IO_L8P_D3_2 (io), Y15 IO_L9P_D1_FS1_2 (io), Y16 IO_L7P_D5_2 (io), Y17 IO_L5N_CSO_B_2 (io), Y18 IO_L3N_A20_2 (io), Y20 IO_L1P_CC_A25_2 (io)
part C pins: D13 IO_L2N_GC_VRP_3 (io), D14 IO_L2P_GC_VRN_3 (io), D15 IO_L0P_CC_GC_3 (io), D16 IO_L1P_CC_GC_3 (io), D18 IO_L3N_GC_3 (io), E10 IO_L8P_GC_3 (io), E11 IO_L6N_GC_3 (io), E12 IO_L4N_GC_VREF_3 (io), E13 IO_L4P_GC_3 (io), E15 IO_L0N_CC_GC_3 (io), E16 IO_L1N_CC_GC_3 (io), E17 IO_L3P_GC_3 (io), E18 IO_L5P_GC_3 (io), E20 IO_L7P_GC_3 (io), E21 IO_L7N_GC_3 (io), F10 IO_L8N_GC_3 (io), F12 IO_L6P_GC_3 (io), F19 IO_L5N_GC_3 (io), F20 IO_L9P_GC_3 (io), G21 IO_L9N_GC_3 (io)
part D pins: AA20 IO_L0N_GC_D14_4 (io), AB10 IO_L1P_GC_D13_4 (io), AB11 IO_L1N_GC_D12_4 (io), AB12 IO_L3N_GC_D8_4 (io), AB14 IO_L7P_GC_VRN_4 (io), AB15 IO_L9P_CC_GC_4 (io), AB16 IO_L8N_CC_GC_4 (io), AB17 IO_L6N_GC_4 (io), AB19 IO_L4P_GC_4 (io), AB20 IO_L2N_GC_D10_4 (io), AB21 IO_L2P_GC_D11_4 (io), AC11 IO_L3P_GC_D9_4 (io), AC12 IO_L5P_GC_4 (io), AC13 IO_L5N_GC_4 (io), AC14 IO_L7N_GC_VRP_4 (io), AC16 IO_L9N_CC_GC_4 (io), AC17 IO_L8P_CC_GC_4 (io), AC18 IO_L6P_GC_4 (io), AC19 IO_L4N_GC_VREF_4 (io), Y21 IO_L0P_GC_D15_4 (io)
part E pins: E22 IO_L4N_VREF_11 (io), E23 IO_L4P_11 (io), E25 IO_L0N_11 (io), E26 IO_L0P_11 (io), F22 IO_L5N_11 (io), F23 IO_L5P_11 (io), F24 IO_L3P_11 (io), F25 IO_L1P_11 (io), G22 IO_L6P_11 (io), G24 IO_L3N_11 (io), G25 IO_L2N_11 (io), G26 IO_L1N_11 (io), H22 IO_L6N_11 (io), H23 IO_L7P_11 (io), H24 IO_L12P_VRN_11 (io), H26 IO_L2P_11 (io), J21 IO_L8P_CC_11 (io), J23 IO_L7N_11 (io), J24 IO_L12N_VRP_11 (io), J25 IO_L13P_11 (io), J26 IO_L13N_11 (io), K21 IO_L8N_CC_11 (io), K22 IO_L9P_CC_11 (io), K23 IO_L9N_CC_11 (io), K25 IO_L15N_SM13N_11 (io), K26 IO_L14P_11 (io), L22 IO_L10N_CC_SM15N_11 (io), L23 IO_L10P_CC_SM15P_11 (io), L24 IO_L15P_SM13P_11 (io), L25 IO_L14N_VREF_11 (io), M21 IO_L11P_CC_SM14P_11 (io), M22 IO_L19N_SM9N_11 (io), M24 IO_L17N_SM11N_11 (io), M25 IO_L17P_SM11P_11 (io), M26 IO_L16N_SM12N_11 (io), N21 IO_L11N_CC_SM14N_11 (io), N22 IO_L19P_SM9P_11 (io), N23 IO_L18N_SM10N_11 (io), N24 IO_L18P_SM10P_11 (io), N26 IO_L16P_SM12P_11 (io)
part F pins: F5 IO_L3N_12 (io), G4 IO_L5P_12 (io), G5 IO_L3P_12 (io), G6 IO_L1P_12 (io), H4 IO_L5N_12 (io), H6 IO_L1N_12 (io), J5 IO_L7P_12 (io), J6 IO_L7N_12 (io), K5 IO_L9P_CC_12 (io), K6 IO_L10P_CC_12 (io), K7 IO_L10N_CC_12 (io), K8 IO_L12P_VRN_12 (io), L5 IO_L9N_CC_12 (io), L7 IO_L12N_VRP_12 (io), L8 IO_L14N_VREF_12 (io), M6 IO_L17P_12 (io), M7 IO_L14P_12 (io), N6 IO_L16N_12 (io), N7 IO_L17N_12 (io), N8 IO_L18P_12 (io), P6 IO_L16P_12 (io), P8 IO_L18N_12 (io), R5 IO_L13N_12 (io), R6 IO_L15P_12 (io), R7 IO_L19N_12 (io), R8 IO_L19P_12 (io), T5 IO_L13P_12 (io), T7 IO_L15N_12 (io), T8 IO_L8N_CC_12 (io), U5 IO_L11N_CC_12 (io), U6 IO_L11P_CC_12 (io), U7 IO_L8P_CC_12 (io), V6 IO_L6P_12 (io), V7 IO_L6N_12 (io), W4 IO_L2N_12 (io), W5 IO_L4P_12 (io), W6 IO_L4N_VREF_12 (io), Y4 IO_L2P_12 (io), Y5 IO_L0N_12 (io), Y6 IO_L0P_12 (io)
part G pins: AA22 IO_L10P_CC_13 (io), AA23 IO_L15N_13 (io), AA24 IO_L14N_VREF_13 (io), AA25 IO_L13P_13 (io), AB24 IO_L15P_13 (io), AB25 IO_L14P_13 (io), AB26 IO_L13N_13 (io), P21 IO_L16P_13 (io), P23 IO_L2N_SM6N_13 (io), P24 IO_L2P_SM6P_13 (io), P25 IO_L1P_SM7P_13 (io), P26 IO_L0P_SM8P_13 (io), R21 IO_L16N_13 (io), R22 IO_L3N_SM5N_13 (io), R23 IO_L3P_SM5P_13 (io), R25 IO_L1N_SM7N_13 (io), R26 IO_L0N_SM8N_13 (io), T22 IO_L17P_13 (io), T23 IO_L6N_SM3N_13 (io), T24 IO_L6P_SM3P_13 (io), T25 IO_L5N_SM4N_13 (io), U21 IO_L18P_13 (io), U22 IO_L17N_13 (io), U24 IO_L7P_SM2P_13 (io), U25 IO_L5P_SM4P_13 (io), U26 IO_L4P_13 (io), V21 IO_L19P_13 (io), V22 IO_L18N_13 (io), V23 IO_L9N_CC_SM0N_13 (io), V24 IO_L7N_SM2N_13 (io), V26 IO_L4N_VREF_13 (io), W21 IO_L19N_13 (io), W23 IO_L11N_CC_13 (io), W24 IO_L9P_CC_SM0P_13 (io), W25 IO_L8N_CC_SM1N_13 (io), W26 IO_L8P_CC_SM1P_13 (io), Y22 IO_L10N_CC_13 (io), Y23 IO_L11P_CC_13 (io), Y25 IO_L12N_VRP_13 (io), Y26 IO_L12P_VRN_13 (io)
part H pins: A13 IO_L1N_15 (io), A14 IO_L2P_15 (io), A15 IO_L2N_15 (io), A17 IO_L5N_15 (io), A18 IO_L6P_15 (io), A19 IO_L6N_15 (io), A20 IO_L8P_CC_15 (io), A22 IO_L13N_15 (io), A23 IO_L14P_15 (io), A24 IO_L14N_VREF_15 (io), A25 IO_L17N_15 (io), B14 IO_L1P_15 (io), B15 IO_L3P_15 (io), B16 IO_L4P_15 (io), B17 IO_L5P_15 (io), B19 IO_L7P_15 (io), B20 IO_L8N_CC_15 (io), B21 IO_L11P_CC_15 (io), B22 IO_L13P_15 (io), B24 IO_L15P_15 (io), B25 IO_L17P_15 (io), B26 IO_L18P_15 (io), C13 IO_L0P_15 (io), C14 IO_L0N_15 (io), C16 IO_L3N_15 (io), C17 IO_L4N_VREF_15 (io), C18 IO_L7N_15 (io), C19 IO_L9P_CC_15 (io), C21 IO_L11N_CC_15 (io), C22 IO_L12N_VRP_15 (io), C23 IO_L15N_15 (io), C24 IO_L16N_15 (io), C26 IO_L18N_15 (io), D19 IO_L9N_CC_15 (io), D20 IO_L10N_CC_15 (io), D21 IO_L10P_CC_15 (io), D23 IO_L12P_VRN_15 (io), D24 IO_L16P_15 (io), D25 IO_L19N_15 (io), D26 IO_L19P_15 (io)
part I pins: A3 IO_L14N_VREF_16 (io), A4 IO_L14P_16 (io), A5 IO_L12N_VRP_16 (io), A7 IO_L10P_CC_16 (io), A8 IO_L4N_VREF_16 (io), A9 IO_L4P_16 (io), A10 IO_L13N_16 (io), A12 IO_L15N_16 (io), B4 IO_L16P_16 (io), B5 IO_L16N_16 (io), B6 IO_L12P_VRN_16 (io), B7 IO_L10N_CC_16 (io), B9 IO_L6P_16 (io), B10 IO_L13P_16 (io), B11 IO_L15P_16 (io), B12 IO_L17P_16 (io), C6 IO_L9N_CC_16 (io), C7 IO_L9P_CC_16 (io), C8 IO_L6N_16 (io), C9 IO_L8P_CC_16 (io), C11 IO_L19P_16 (io), C12 IO_L17N_16 (io), D5 IO_L18P_16 (io), D6 IO_L7N_16 (io), D8 IO_L8N_CC_16 (io), D9 IO_L11P_CC_16 (io), D10 IO_L11N_CC_16 (io), D11 IO_L19N_16 (io), E5 IO_L18N_16 (io), E6 IO_L7P_16 (io), E7 IO_L5N_16 (io), E8 IO_L5P_16 (io), F7 IO_L1P_16 (io), F8 IO_L1N_16 (io), F9 IO_L2P_16 (io), G7 IO_L0N_16 (io), G9 IO_L2N_16 (io), H7 IO_L0P_16 (io), H8 IO_L3P_16 (io), J8 IO_L3N_16 (io)
part J pins: AB22 IO_L7N_17 (io), AC21 IO_L11P_CC_17 (io), AC22 IO_L7P_17 (io), AC23 IO_L6N_17 (io), AC24 IO_L6P_17 (io), AC26 IO_L0P_17 (io), AD13 IO_L19P_17 (io), AD14 IO_L19N_17 (io), AD15 IO_L16P_17 (io), AD16 IO_L15N_17 (io), AD18 IO_L13N_17 (io), AD19 IO_L10P_CC_17 (io), AD20 IO_L10N_CC_17 (io), AD21 IO_L11N_CC_17 (io), AD23 IO_L5N_17 (io), AD24 IO_L1N_17 (io), AD25 IO_L1P_17 (io), AD26 IO_L0N_17 (io), AE13 IO_L18N_17 (io), AE15 IO_L16N_17 (io), AE16 IO_L15P_17 (io), AE17 IO_L14P_17 (io), AE18 IO_L13P_17 (io), AE20 IO_L9N_CC_17 (io), AE21 IO_L8N_CC_17 (io), AE22 IO_L5P_17 (io), AE23 IO_L4N_VREF_17 (io), AE25 IO_L2P_17 (io), AE26 IO_L2N_17 (io), AF13 IO_L18P_17 (io), AF14 IO_L17N_17 (io), AF15 IO_L17P_17 (io), AF17 IO_L14N_VREF_17 (io), AF18 IO_L12N_VRP_17 (io), AF19 IO_L12P_VRN_17 (io), AF20 IO_L9P_CC_17 (io), AF22 IO_L8P_CC_17 (io), AF23 IO_L4P_17 (io), AF24 IO_L3N_17 (io), AF25 IO_L3P_17 (io)
part K pins: AA5 IO_L9P_CC_18 (io), AA7 IO_L7P_18 (io), AA8 IO_L7N_18 (io), AA9 IO_L19N_18 (io), AB5 IO_L9N_CC_18 (io), AB6 IO_L10P_CC_18 (io), AB7 IO_L10N_CC_18 (io), AB9 IO_L19P_18 (io), AC6 IO_L12P_VRN_18 (io), AC7 IO_L16N_18 (io), AC8 IO_L17P_18 (io), AC9 IO_L18N_18 (io), AD4 IO_L14N_VREF_18 (io), AD5 IO_L12N_VRP_18 (io), AD6 IO_L16P_18 (io), AD8 IO_L17N_18 (io), AD9 IO_L18P_18 (io), AD10 IO_L4P_18 (io), AD11 IO_L2N_18 (io), AE5 IO_L14P_18 (io), AE6 IO_L13P_18 (io), AE7 IO_L11N_CC_18 (io), AE8 IO_L11P_CC_18 (io), AE10 IO_L4N_VREF_18 (io), AE11 IO_L2P_18 (io), AE12 IO_L0N_18 (io), AF3 IO_L15N_18 (io), AF4 IO_L15P_18 (io), AF5 IO_L13N_18 (io), AF7 IO_L8P_CC_18 (io), AF8 IO_L8N_CC_18 (io), AF9 IO_L6P_18 (io), AF10 IO_L6N_18 (io), AF12 IO_L0P_18 (io), V8 IO_L1P_18 (io), V9 IO_L1N_18 (io), W8 IO_L3N_18 (io), W9 IO_L3P_18 (io), Y7 IO_L5P_18 (io), Y8 IO_L5N_18 (io)
part L pins: H12 INIT_B_0 (io), J10 D_IN_0 (in), J11 CCLK_0 (io), J20 PROGRAM_B_0 (in), K11 DONE_0 (io), K20 HSWAPEN_0 (in), L20 CS_B_0 (in), M20 RDWR_B_0 (in), R14 DXN_0, R15 DXP_0, T20 M0_0 (in), U12 D_OUT_BUSY_0 (out), U20 M2_0 (in), V11 TCK_0 (in), V12 TDO_0 (out), V13 TDI_0 (in), W13 TMS_0 (in), W20 M1_0 (in)
part M pins: AA1 MGTRXP0_118 (in), AA2 MGTTXN0_118 (out), AB1 MGTRXN0_118 (in), AB3 MGTREFCLKN_118 (in), AB4 MGTREFCLKP_118 (in), AC1 MGTRXN1_118 (in), AD1 MGTRXP1_118 (in), AD2 MGTTXN1_118 (out), AE2 MGTTXP1_118 (out), B2 MGTTXP0_116 (out), C1 MGTRXP0_116 (in), C2 MGTTXN0_116 (out), D1 MGTRXN0_116 (in), D3 MGTREFCLKN_116 (in), D4 MGTREFCLKP_116 (in), E1 MGTRXN1_116 (in), F1 MGTRXP1_116 (in), F2 MGTTXN1_116 (out), G2 MGTTXP1_116 (out), H2 MGTTXP0_112 (out), J1 MGTRXP0_112 (in), J2 MGTTXN0_112 (out), K1 MGTRXN0_112 (in), K3 MGTREFCLKN_112 (in), K4 MGTREFCLKP_112 (in), L1 MGTRXN1_112 (in), M1 MGTRXP1_112 (in), M2 MGTTXN1_112 (out), N2 MGTTXP1_112 (out), P2 MGTTXP0_114 (out), P4 MGTRREF_112 (in), R1 MGTRXP0_114 (in), R2 MGTTXN0_114 (out), T1 MGTRXN0_114 (in), T3 MGTREFCLKN_114 (in), T4 MGTREFCLKP_114 (in), U1 MGTRXN1_114 (in), V1 MGTRXP1_114 (in), V2 MGTTXN1_114 (out), W2 MGTTXP1_114 (out), Y2 MGTTXP0_118 (out)
part N pins: AA3 MGTAVTTRX_118 (power), AA6 VCCO_18 (power), AA16 VCCO_2 (power), AB13 VCCO_4 (power), AB23 VCCO_17 (power), AC3 MGTAVCC_118 (power), AC4 MGTAVCC_118 (power), AC10 VCCO_18 (power), AC20 VCCO_17 (power), AD3 MGTAVCCPLL_118 (power), AD7 VCCO_18 (power), AD17 VCCO_2 (power), AE3 MGTAVTTTX_118 (power), AE14 VCCO_4 (power), AE24 VCCO_17 (power), B3 MGTAVTTTX_116 (power), B13 VCCO_1 (power), B23 VCCO_15 (power), C3 MGTAVTTRX_116 (power), C10 VCCO_16 (power), D7 VCCO_16 (power), D17 VCCO_3 (power), E3 MGTAVCC_116 (power), E4 MGTAVCC_116 (power), E14 VCCO_1 (power), E24 VCCO_15 (power), F3 MGTAVCCPLL_116 (power), F11 VCCO_0 (power), F21 VCCO_15 (power), G3 MGTAVTTTX_116 (power), G8 VCCO_16 (power), G18 VCCO_3 (power), H3 MGTAVTTTX_112 (power), H5 VCCO_12 (power), H15 VCCINT (power), H17 VCCINT (power), H25 VCCO_11 (power), J3 MGTAVTTRX_112 (power), J12 VCCO_0 (power), J14 VCCINT (power), J16 VCCINT (power), J18 VCCINT (power), J19 VBATT_0 (power), J22 VCCO_11 (power), K9 VCCAUX (power), K13 VCCINT (power), K15 VCCINT (power), K17 VCCINT (power), K19 VCCINT (power), L3 MGTAVCC_112 (power), L4 MGTAVCC_112 (power), L6 VCCO_12 (power), L10 VCCINT (power), L12 VCCINT (power), L14 VCCINT (power), L16 VCCINT (power), L18 VCCINT (power), M3 MGTAVCCPLL_112 (power), M9 VCCAUX (power), M11 VCCINT (power), M13 VCCINT (power), M14 AVSS_0 (power), M15 AVDD_0 (power), M17 VCCINT (power), M19 VCCAUX (power), M23 VCCO_11 (power), N3 MGTAVTTTX_112 (power), N10 VCCINT (power), N12 VCCINT (power), N14 VREFN_0 (power), N15 VP_0 (power), N16 VCCINT (power), N18 VCCINT (power), N20 VCCAUX (power), P3 MGTAVTTTX_114 (power), P5 MGTAVTTRXC (power), P7 VCCO_12 (power), P9 VCCAUX (power), P11 VCCINT (power), P13 VCCINT (power), P14 VN_0 (power), P15 VREFP_0 (power), P17 VCCINT (power), P19 VCCAUX (power), R3 MGTAVTTRX_114 (power), R10 VCCINT (power), R12 VCCINT (power), R16 VCCINT (power), R18 VCCINT (power), R24 VCCO_13 (power), T9 VCCAUX (power), T11 VCCINT (power), T13 VCCINT (power), T15 VCCINT (power), T17 VCCINT (power), T19 VCCAUX (power), U3 MGTAVCC_114 (power), U4 MGTAVCC_114 (power), U8 VCCAUX (power), U10 VCCINT (power), U14 VCCINT (power), U16 VCCINT (power), U18 VCCINT (power), V3 MGTAVCCPLL_114 (power), V15 VCCINT (power), V17 VCCINT (power), V19 VCCAUX (power), V25 VCCO_13 (power), W3 MGTAVTTTX_114 (power), W10 VCCAUX (power), W18 VCCINT (power), W22 VCCO_13 (power), Y3 MGTAVTTTX_118 (power), Y19 VCCAUX (power)
part O pins: A2 GND (power), A6 GND (power), A11 GND (power), A16 GND (power), A21 GND (power), A26 GND (power), AA4 GND (power), AA11 GND (power), AA21 GND (power), AA26 GND (power), AB2 GND (power), AB8 GND (power), AB18 GND (power), AC2 GND (power), AC5 GND (power), AC15 GND (power), AC25 GND (power), AD12 GND (power), AD22 GND (power), AE4 GND (power), AE9 GND (power), AE19 GND (power), AF2 GND (power), AF6 GND (power), AF11 GND (power), AF16 GND (power), AF21 GND (power), AF26 GND (power), B8 GND (power), B18 GND (power), C4 GND (power), C5 GND (power), C15 GND (power), C20 GND (power), C25 GND (power), D2 GND (power), D12 GND (power), D22 GND (power), E2 GND (power), E9 GND (power), E19 GND (power), F4 GND (power), F6 GND (power), F16 GND (power), F26 GND (power), G13 GND (power), G23 GND (power), H10 GND (power), H14 GND (power), H16 GND (power), H20 GND (power), J4 GND (power), J7 GND (power), J13 GND (power), J15 GND (power), J17 GND (power), K2 GND (power), K10 GND (power), K12 GND (power), K14 GND (power), K16 GND (power), K18 GND (power), K24 GND (power), L2 GND (power), L9 GND (power), L11 GND (power), L13 GND (power), L15 GND (power), L17 GND (power), L19 GND (power), L21 GND (power), L26 GND (power), M4 GND (power), M8 GND (power), M10 GND (power), M12 GND (power), M16 GND (power), M18 GND (power), N5 GND (power), N9 GND (power), N11 GND (power), N13 GND (power), N17 GND (power), N19 GND (power), N25 GND (power), P10 GND (power), P12 GND (power), P16 GND (power), P18 GND (power), P20 RSVD, P22 GND (power), R4 GND (power), R9 GND (power), R11 GND (power), R13 GND (power), R17 GND (power), R19 GND (power), R20 RSVD, T2 GND (power), T6 GND (power), T10 GND (power), T12 GND (power), T14 GND (power), T16 GND (power), T18 GND (power), T21 GND (power), T26 GND (power), U2 GND (power), U9 GND (power), U11 GND (power), U13 GND (power), U15 GND (power), U17 GND (power), U19 GND (power), U23 GND (power), V4 GND (power), V5 GND (power), V10 GND (power), V14 GND (power), V16 GND (power), V18 GND (power), V20 GND (power), W7 GND (power), W12 GND (power), W15 GND (power), W17 GND (power), W19 GND (power), Y9 GND (power), Y14 GND (power), Y24 GND (power)
part P pins: M5 NC, N4 NC
part A text: BANK 1
part B text: BANK 2
part C text: BANK 3
part D text: BANK 4
part E text: BANK 11
part F text: BANK 12
part G text: BANK 13
part H text: BANK 15
part I text: BANK 16
part J text: BANK 17
part K text: BANK 18

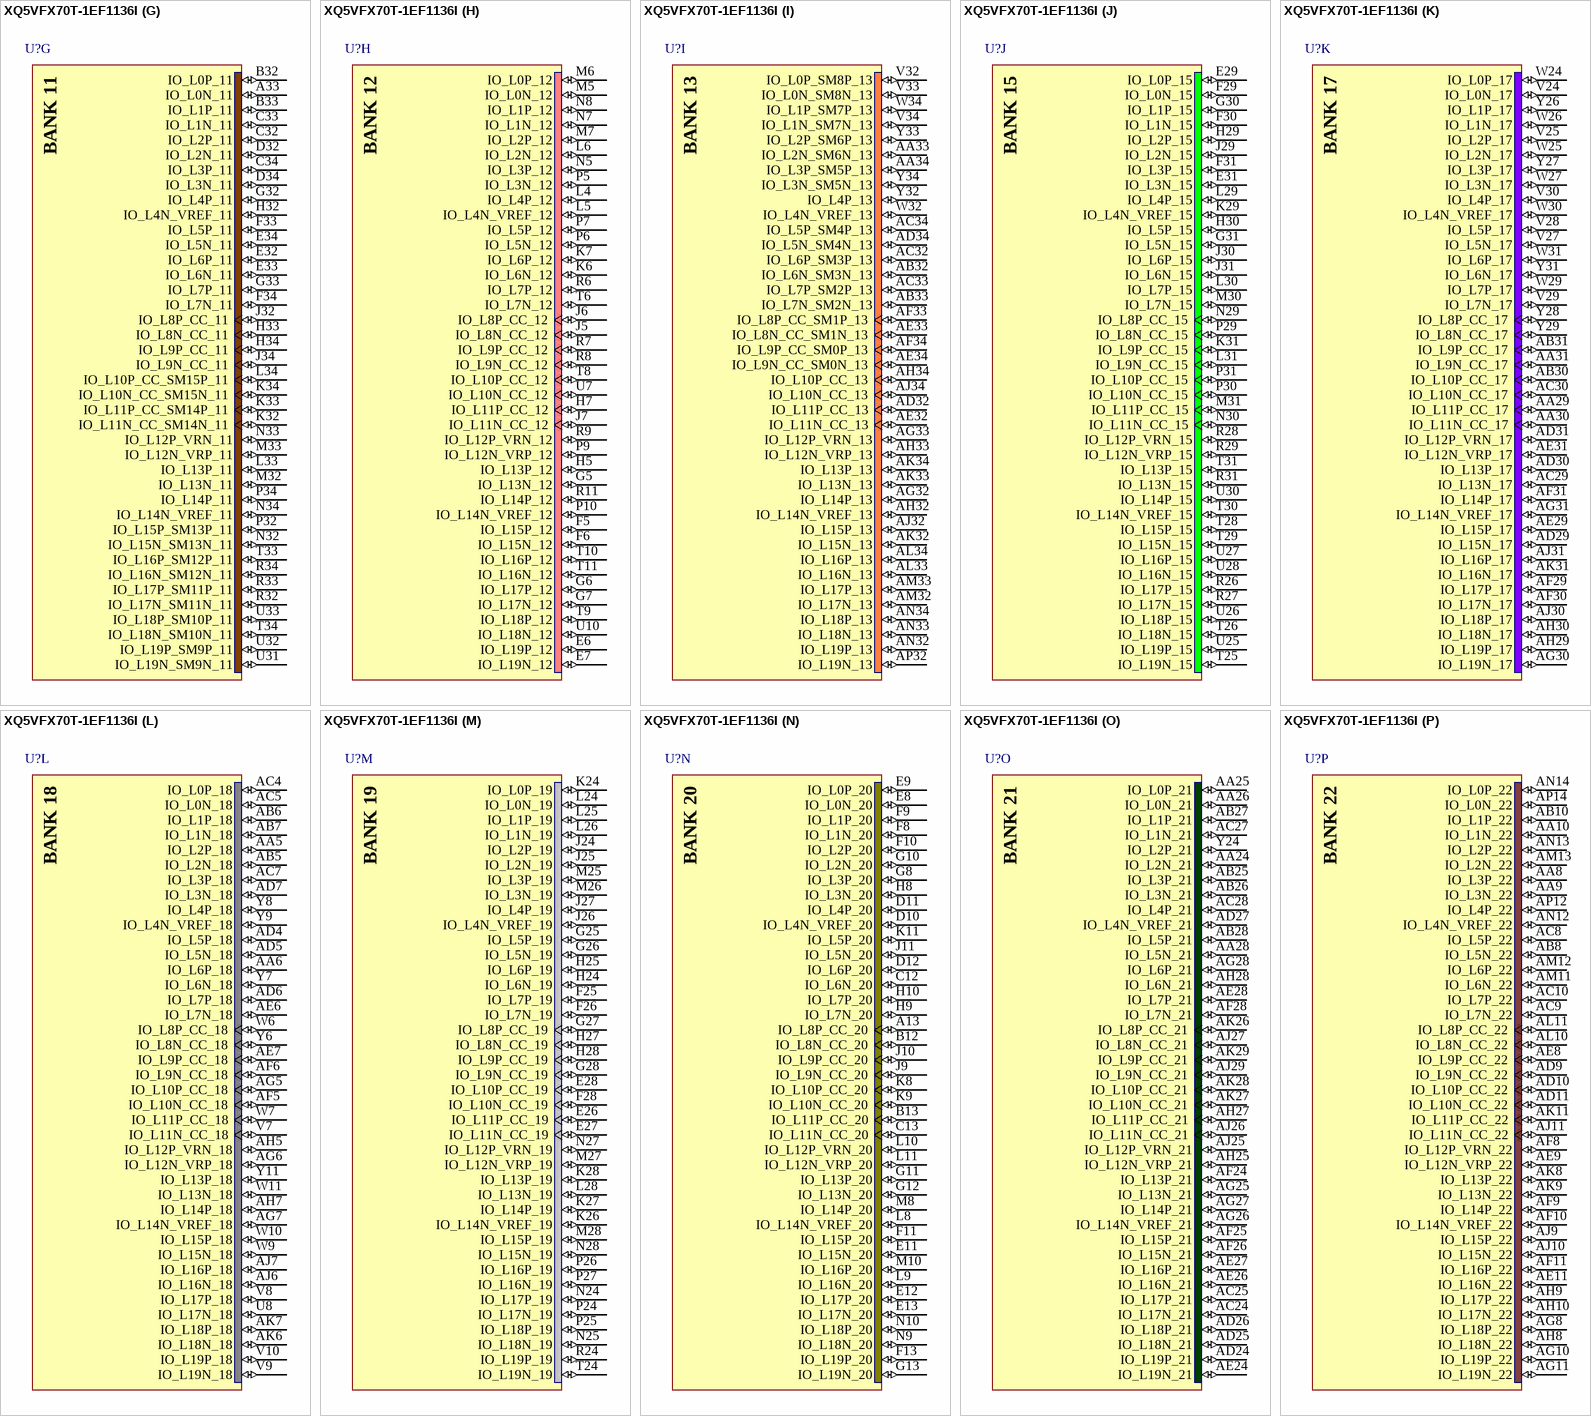
[diagram p66: symbol XQ5VFX70T-1EF1136I]

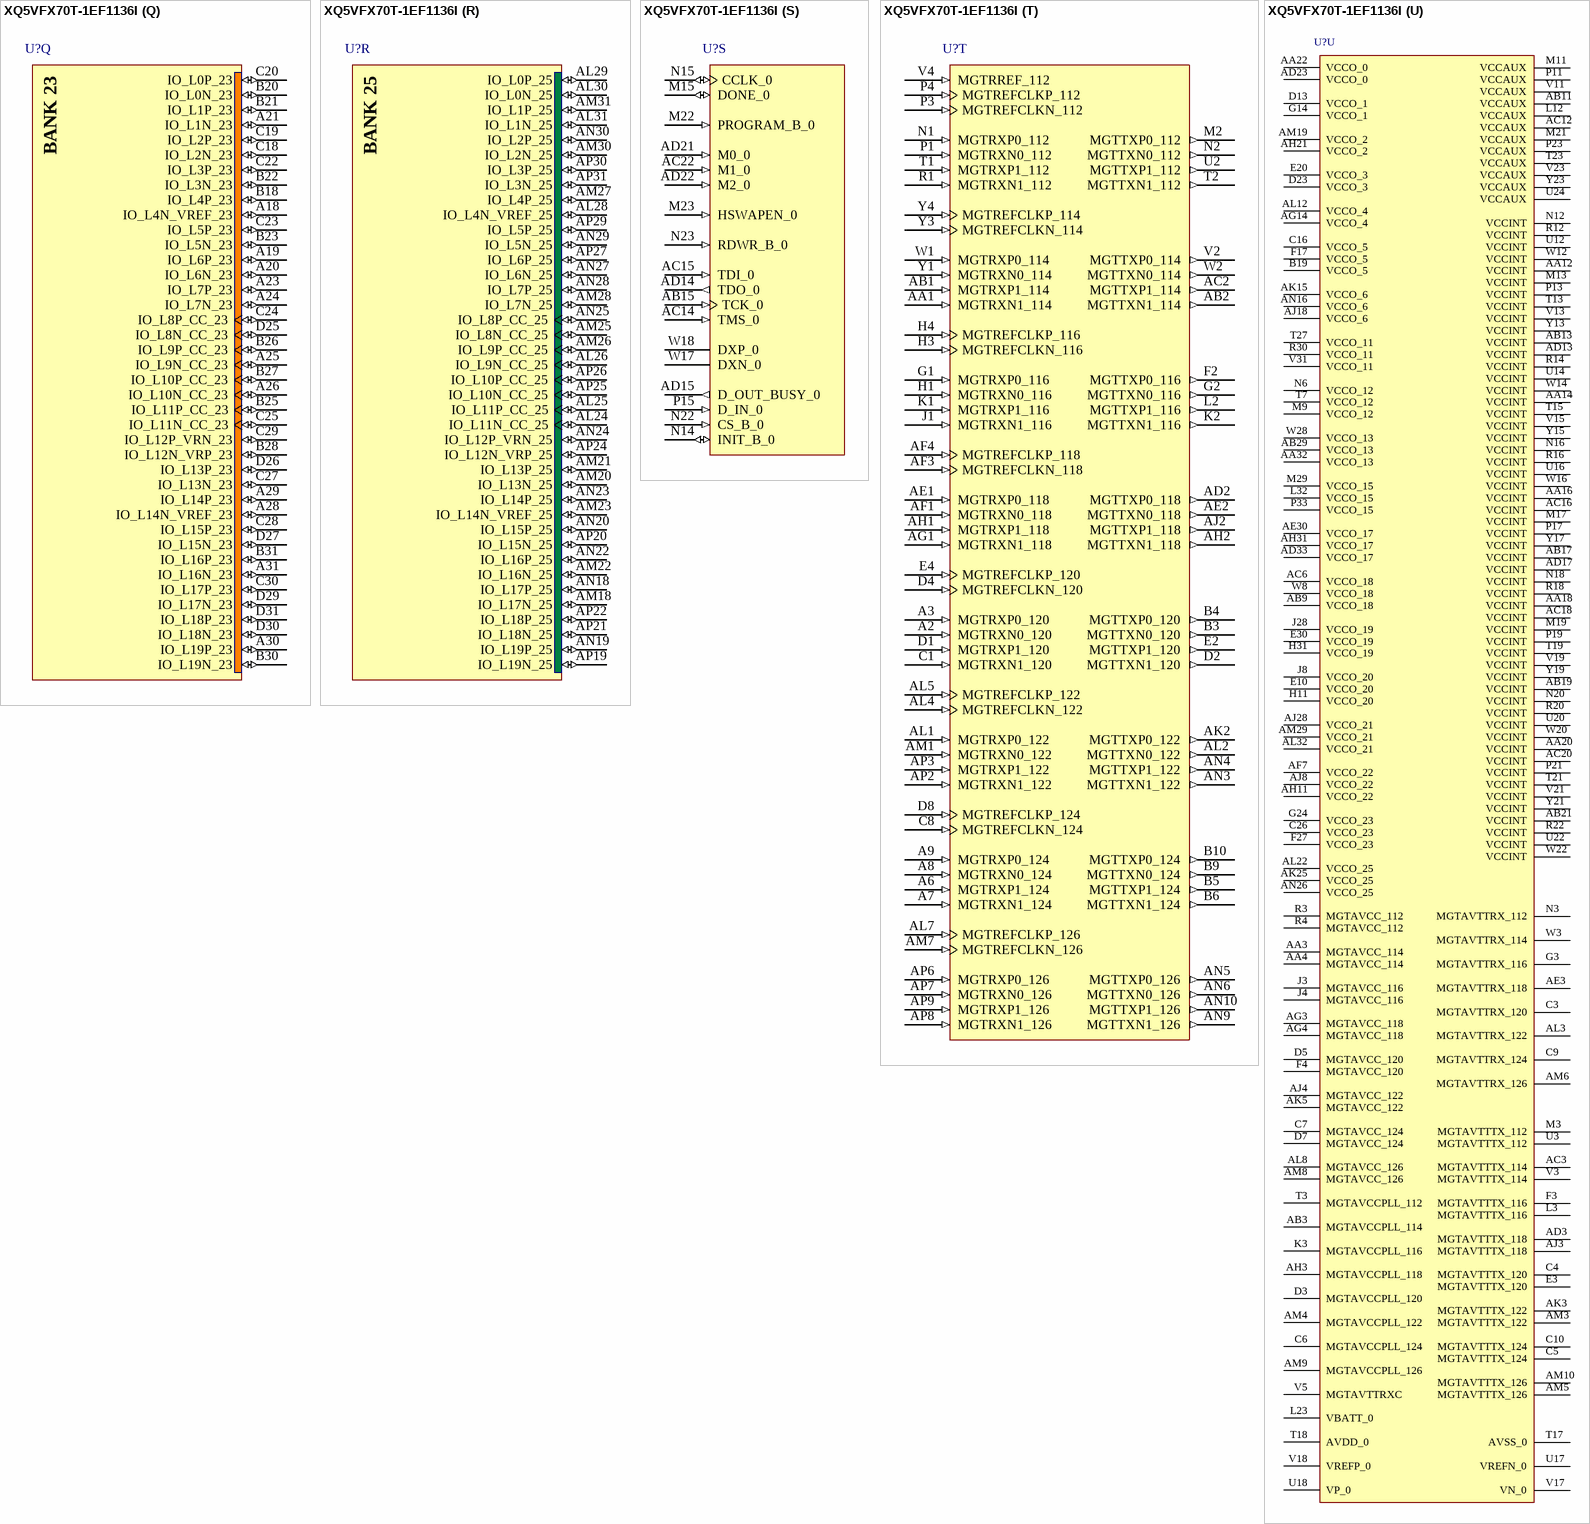
[diagram p67: symbol XQ5VFX70T-1EF1136I]

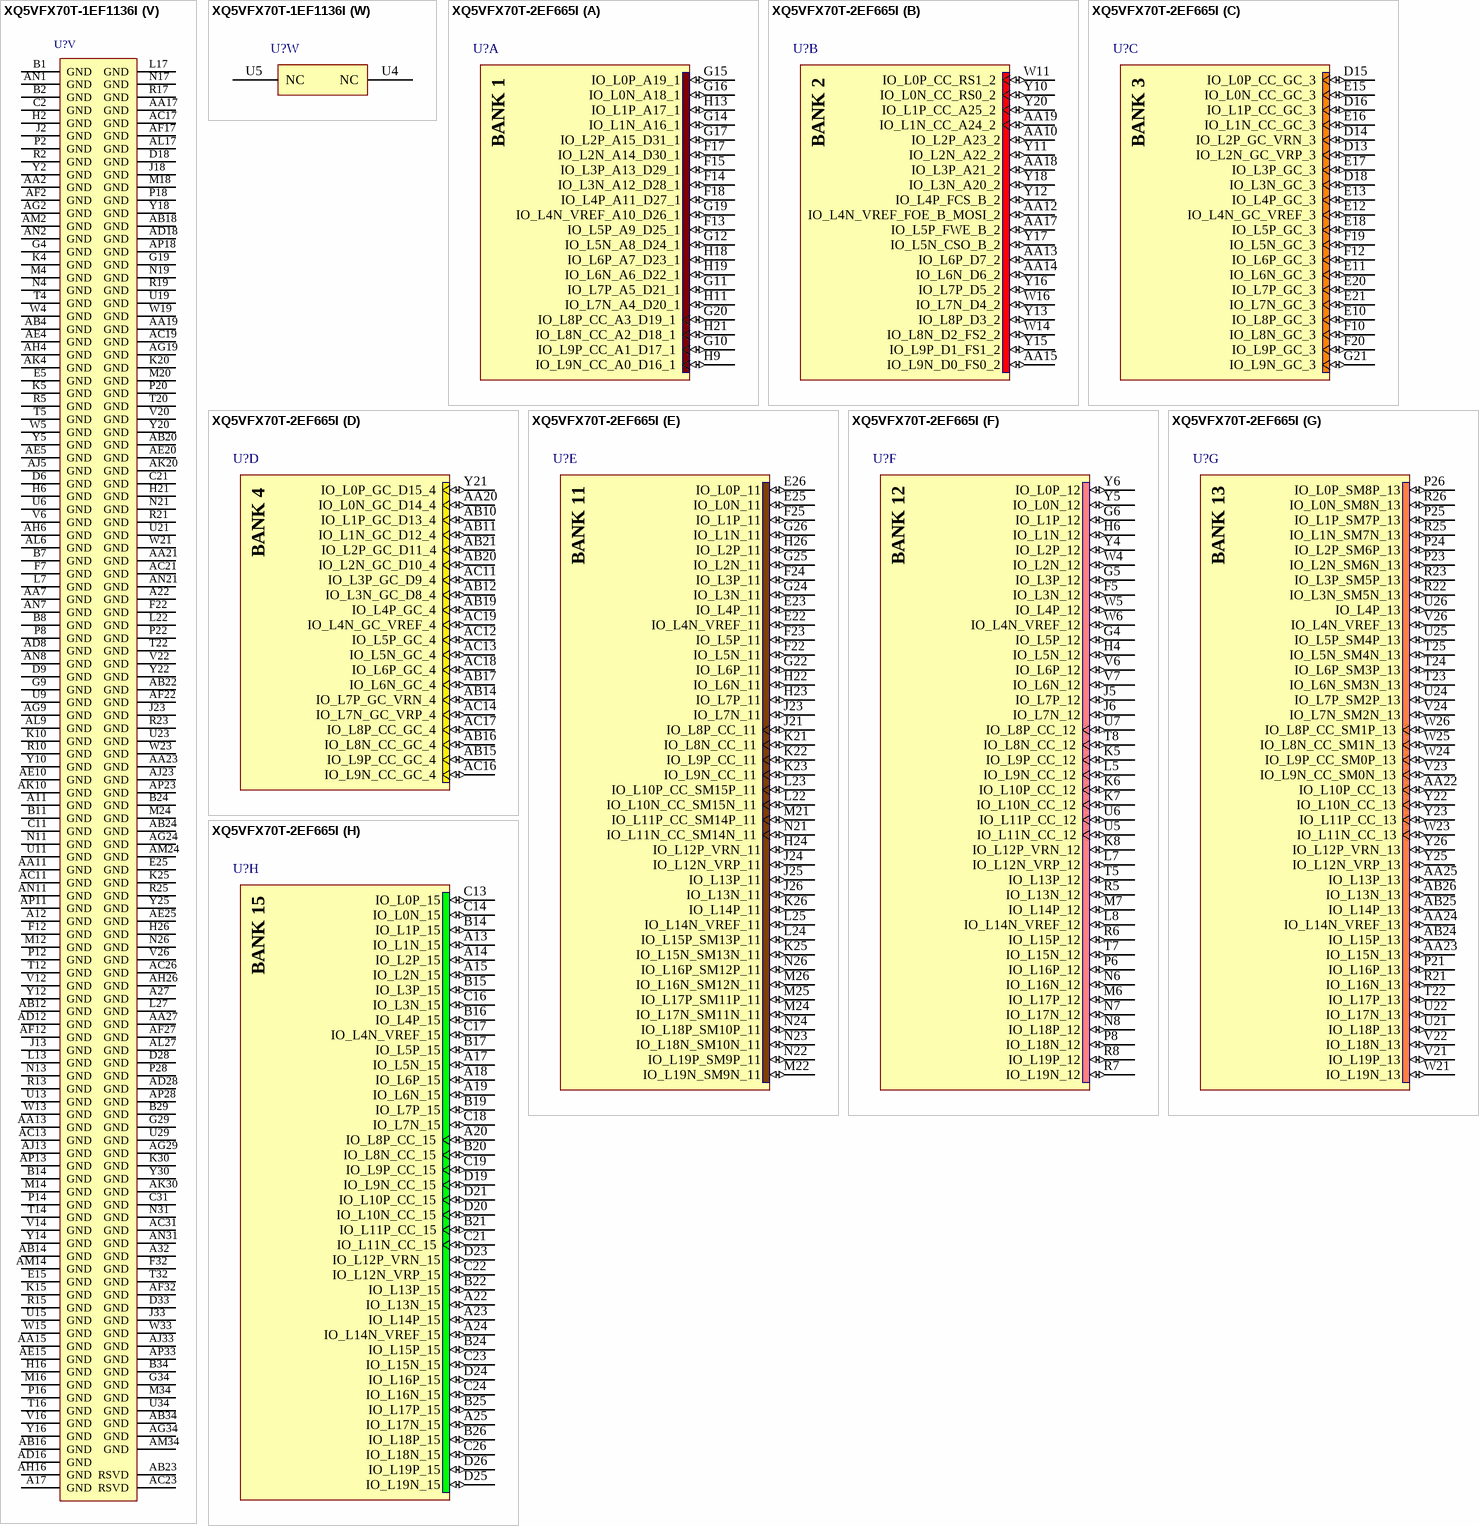
[diagram p68: symbols XQ5VFX70T-1EF1136I to XQ5VFX70T-2EF665I]